# Altium integrated library Processor.IntLib: 68 symbols (part 3 of 4)
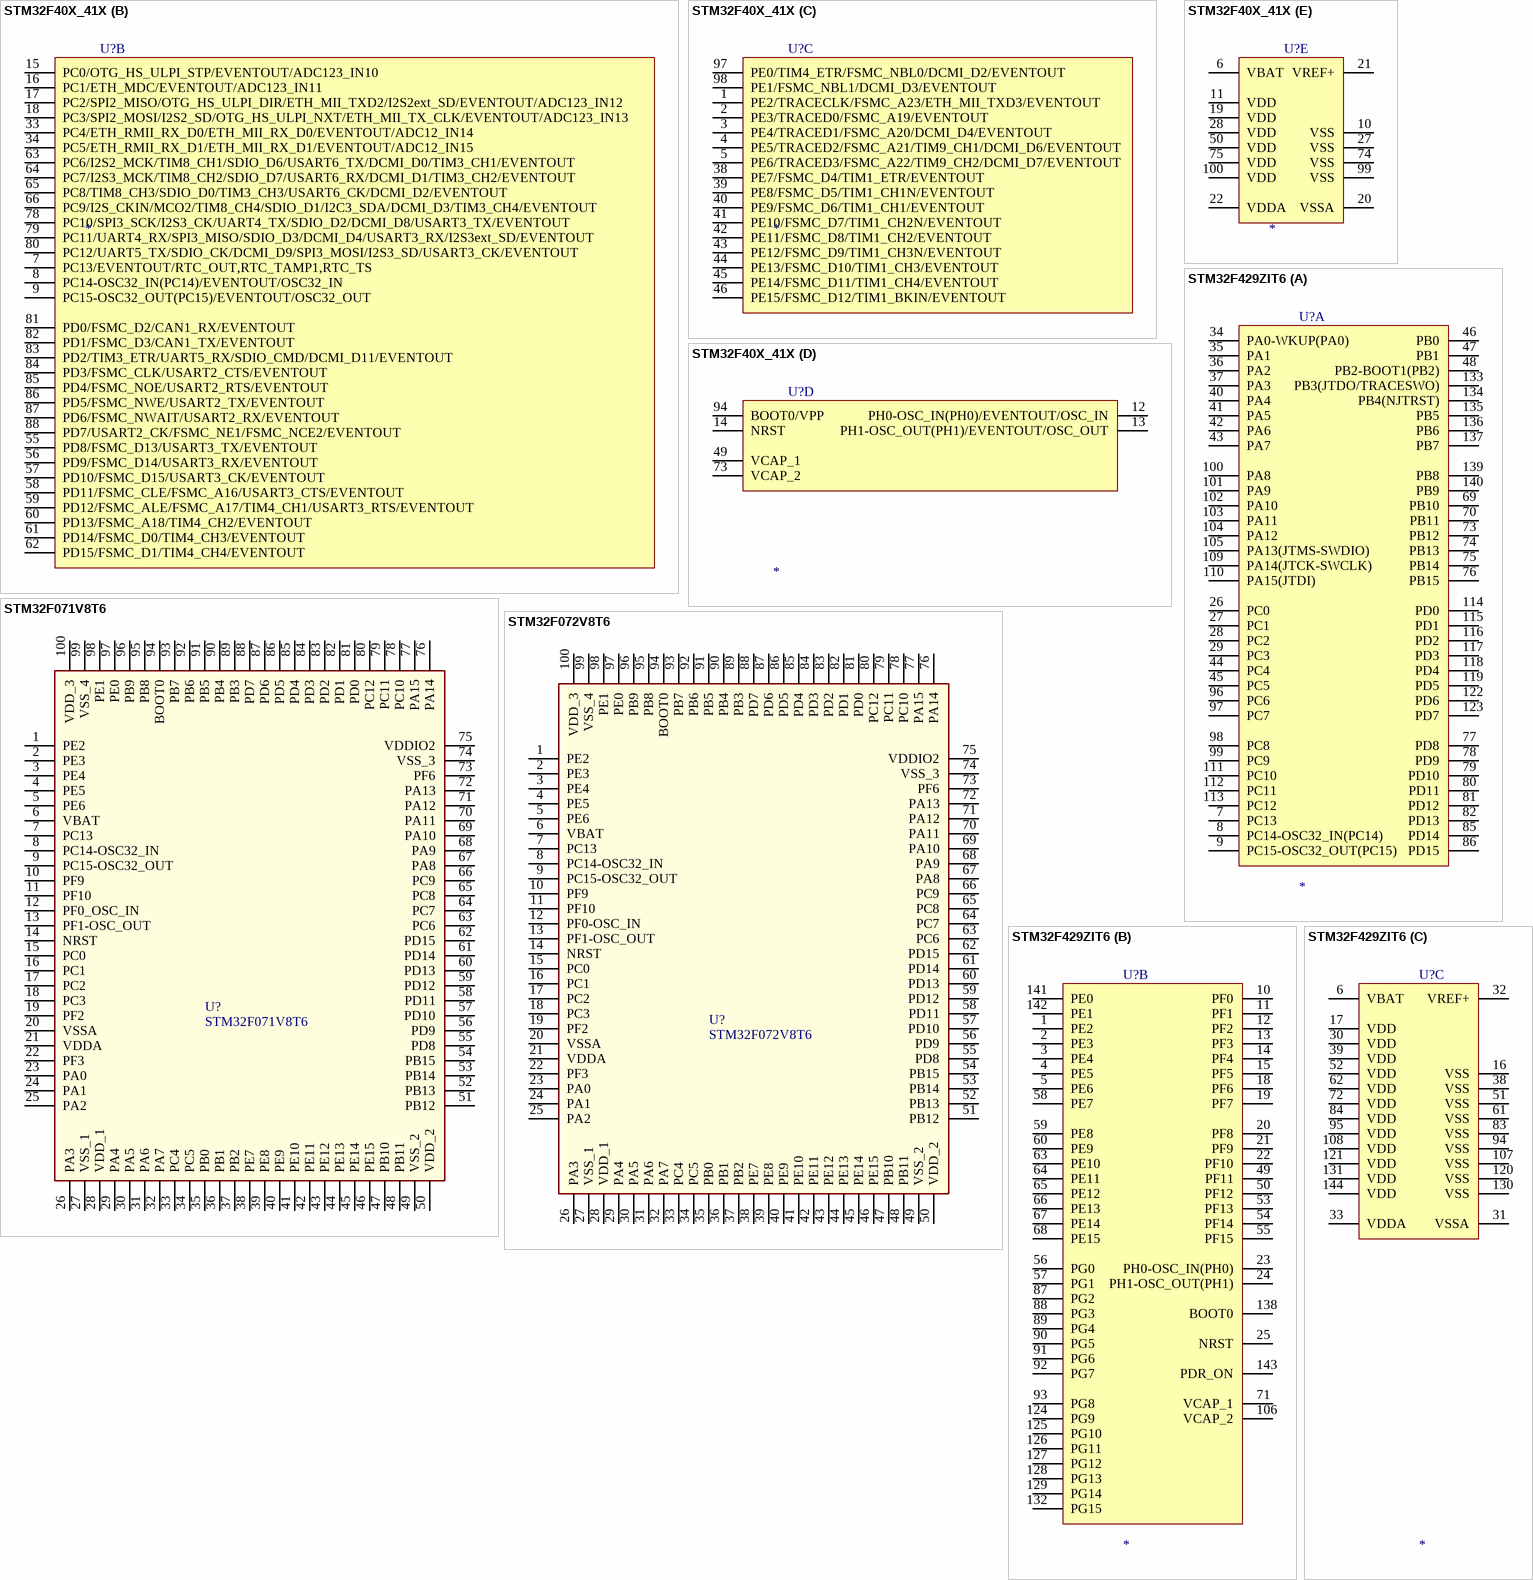
[diagram p29: symbols STM32F40X_41X to STM32F429ZIT6]

## STM32F429ZIT6
designator U?
ARM Cortex-M4 32b MCU+FPU,; Value: *
footprint LQFP144 P0.5 C20.0x20.0 H1.6 (Thin QFP, 144-Leads, Body 20x20mm, Pitch 0.5mm, IPC Medium Density)
part A pins: 7 PC13 "PC13/EVENTOUT/TAMP_1", 8 PC14-OSC32_IN(PC14) "PC14-OSC32_IN(PC14)/EVENTOUT/OSC32_IN", 9 PC15-OSC32_OUT(PC15) "PC15-OSC32_OUT(PC15)/EVENTOUT/OSC32_OUT", 26 PC0 "PC0/OTG_HS_ULPI_STP,FMC_SDNWE,EVENTOUT/ADC123_IN10", 27 PC1 "PC1/ETH_MDC,EVENTOUT/ADC123_IN11", 28 PC2 "PC2/SPI2_MISO,I2S2ext_SD,OTG_HS_ULPI_DIR,ETH_MII_TXD2,FMC_SDNE0,EVENTOUT/ADC123_IN12", 29 PC3 "PC3/SPI2_MOSI/I2S2_SD,OTG_HS_ULPI_NXT,ETH_MII_TX_CLK,FMC_SDCKE0,EVENTOUT/ADC123_IN13", 34 PA0-WKUP(PA0) "PA0-WKUP(PA0)/TIM2_CH1/TIM2_ETR,TIM5_CH1,TIM8_ETR,USART2_CTS,UART4_TX,ETH_MII_CRS,EVENTOUT/ADC123_IN0/WKUP", 35 PA1 "PA1/TIM2_CH2,TIM5_CH2,USART2_RTS,UART4_RX,ETH_MII_RX_CLK/ETH_RMII_REF_CLK,EVENTOUT/ADC123_IN1", 36 PA2 "PA2/TIM2_CH3,TIM5_CH3,TIM9_CH1,USART2_TX,ETH_MDIO,EVENTOUT/ADC123_IN2", 37 PA3 "PA3/TIM2_CH4,TIM5_CH4,TIM9_CH2,USART2_RX,OTG_HS_ULPI_D0,ETH_MII_COL,LCD_B5,EVENTOUT/ADC123_IN3", 40 PA4 "PA4/SPI1_NSS,SPI3_NSS/I2S3_WS,USART2_CK,OTG_HS_SOF,DCMI_HSYNC,LCD_VSYNC,EVENTOUT/ADC12_IN4/DAC_OUT1", 41 PA5 "PA5/TIM2_CH1/TIM2_ETR,TIM8_CH1N,SPI1_SCK,OTG_HS_ULPI_CK,EVENTOUT/ADC12_IN5/DAC_OUT2", 42 PA6 "PA6/TIM1_BKIN,TIM3_CH1,TIM8_BKIN,SPI1_MISO,TIM13_CH1,DCMI_PIXCLK,LCD_G2,EVENTOUT/ADC12_IN6", 43 PA7 "PA7/TIM1_CH1N,TIM3_CH2,TIM8_CH1N,SPI1_MOSI,TIM14_CH1,ETH_MII_RX_DV/ETH_RMII_CRS_DV,EVENTOUT/ADC12_IN7", 44 PC4 "PC4/ETH_MII_RXD0/ETH_RMII_RXD0,EVENTOUT/ADC12_IN14", 45 PC5 "PC5/ETH_MII_RXD1/ETH_RMII_RXD1,EVENTOUT/ADC12_IN15", 46 PB0 "PB0/TIM1_CH2N,TIM3_CH3,TIM8_CH2N,LCD_R3,OTG_HS_ULPI_D1,ETH_MII_RXD2,EVENTOUT/ADC12_IN8", 47 PB1 "PB1/TIM1_CH3N,TIM3_CH4,TIM8_CH3N,LCD_R6,OTG_HS_ULPI_D2,ETH_MII_RXD3,EVENTOUT/ADC12_IN9", 48 PB2-BOOT1(PB2) "PB2-BOOT1(PB2)/EVENTOUT", 69 PB10 "PB10/TIM2_CH3,I2C2_SCL,SPI2_SCK/I2S2_CK,USART3_TX,OTG_HS_ULPI_D3,ETH_MII_RX_ER,LCD_G4,EVENTOUT", 70 PB11 "PB11/TIM2_CH4,I2C2_SDA,USART3_RX,OTG_HS_ULPI_D4,ETH_MII_TX_EN/ETH_RMII_TX_EN,LCD_G5,EVENTOUT", 73 PB12 "PB12/TIM1_BKIN,I2C2_SMBA,SPI2_NSS/I2S2_WS,USART3_CK,CAN2_RX,OTG_HS_ULPI_D5,ETH_MII_TXD0/ETH_RMII_TXD0,OTG_HS_ID,EVENTOUT", 74 PB13 "PB13/TIM1_CH1N,SPI2_SCK/I2S2_CK,USART3_CTS,CAN2_TX,OTG_HS_ULPI_D6,ETH_MII_TXD1/ETH_RMII_TXD1,EVENTOUT/OTG_HS_VBUS", 75 PB14 "PB14/TIM1_CH2N,TIM8_CH2N,SPI2_MISO,I2S2ext_SD,USART3_RTS,TIM12_CH1,EVENTOUT/OTG_HS_DM", 76 PB15 "PB15/RTC_REFIN,TIM1_CH3N,TIM8_CH3N,SPI2_MOSI/I2S2_SD,TIM12_CH2,EVENTOUT/OTG_HS_DP", 77 PD8 "PD8/USART3_TX,FMC_D13,EVENTOUT", 78 PD9 "PD9/USART3_RX,FMC_D14,EVENTOUT", 79 PD10 "PD10/USART3_CK,FMC_D15,LCD_B3,EVENTOUT", 80 PD11 "PD11/USART3_CTS,FMC_A16,EVENTOUT", 81 PD12 "PD12/TIM4_CH1,USART3_RTS,FMC_A17,EVENTOUT", 82 PD13 "PD13/TIM4_CH2,FMC_A18,EVENTOUT", 85 PD14 "PD14/TIM4_CH3,FMC_D0,EVENTOUT", 86 PD15 "PD15/TIM4_CH4,FMC_D1,EVENTOUT", 96 PC6 "PC6/TIM3_CH1,TIM8_CH1,I2S2_MCK,USART6_TX,SDIO_D6,DCMI_D0,LCD_HSYNC,EVENTOUT", 97 PC7 "PC7/TIM3_CH2,TIM8_CH2,I2S3_MCK,USART6_RX,SDIO_D7,DCMI_D1,LCD_G6,EVENTOUT", 98 PC8 "PC8/TIM3_CH3,TIM8_CH3,USART6_CK,SDIO_D0,DCMI_D2,EVENTOUT", 99 PC9 "PC9/MCO2,TIM3_CH4,TIM8_CH4,I2C3_SDA,I2S_CKIN,SDIO_D1,DCMI_D3,EVENTOUT", 100 PA8 "PA8/MCO1,TIM1_CH1,I2C3_SCL,USART1_CK,OTG_FS_SOF,LCD_R6,EVENTOUT", 101 PA9 "PA9/TIM1_CH2,I2C3_SMBA,USART1_TX,DCMI_D0,EVENTOUT/OTG_FS_VBUS", 102 PA10 "PA10/TIM1_CH3,USART1_RX,OTG_FS_ID,DCMI_D1,EVENTOUT", 103 PA11 "PA11/TIM1_CH4,USART1_CTS,CAN1_RX,LCD_R4,EVENTOUT/OTG_FS_DM", 104 PA12 "PA12/TIM1_ETR,USART1_RTS,CAN1_TX,LCD_R5,EVENTOUT/OTG_FS_DP", 105 PA13(JTMS-SWDIO) "PA13(JTMS-SWDIO)/JTMS-SWDIO,EVENTOUT", 109 PA14(JTCK-SWCLK) "PA14(JTCK-SWCLK)/JTCK-SWCLK/EVENTOUT", 110 PA15(JTDI) "PA15(JTDI)/JTDI,TIM2_CH1/TIM2_ETR,SPI1_NSS,SPI3_NSS/I2S3_WS,EVENTOUT", 111 PC10 "PC10/SPI3_SCK/I2S3_CK,USART3_TX,UART4_TX,SDIO_D2,DCMI_D8,LCD_R2,EVENTOUT", 112 PC11 "PC11/I2S3ext_SD,SPI3_MISO,USART3_RX,UART4_RX,SDIO_D3,DCMI_D4,EVENTOUT", 113 PC12 "PC12/SPI3_MOSI/I2S3_SD,USART3_CK,UART5_TX,SDIO_CK,DCMI_D9,EVENTOUT", 114 PD0 "PD0/CAN1_RX,FMC_D2,EVENTOUT", 115 PD1 "PD1/CAN1_TX,FMC_D3,EVENTOUT", 116 PD2 "PD2/TIM3_ETR,UART5_RX,SDIO_CMD,DCMI_D11,EVENTOUT", 117 PD3 "PD3/SPI2_SCK/I2S2_CK,USART2_CTS,FMC_CLK,DCMI_D5,LCD_G7,EVENTOUT", 118 PD4 "PD4/USART2_RTS,FMC_NOE,EVENTOUT", 119 PD5 "PD5/USART2_TX,FMC_NWE,EVENTOUT", 122 PD6 "PD6/SPI3_MOSI/I2S3_SD,SAI1_SD_A,USART2_RX,FMC_NWAIT,DCMI_D10,LCD_B2,EVENTOUT", 123 PD7 "PD7/USART2_CK,FMC_NE1/FMC_NCE2,EVENTOUT", 133 PB3(JTDO/TRACESWO) "PB3(JTDO/TRACESWO)/JTDO/TRACESWO,TIM2_CH2,SPI1_SCK,SPI3_SCK/I2S3_CK,EVENTOUT", 134 PB4(NJTRST) "PB4(NJTRST)/NJTRST,TIM3_CH1,SPI1_MISO,SPI3_MISO,I2S3ext_SD,EVENTOUT", 135 PB5 "PB5/TIM3_CH2,I2C1_SMBA,SPI1_MOSI,SPI3_MOSI/I2S3_SD,CAN2_RX,OTG_HS_ULPI_D7,ETH_PPS_OUT,FMC_SDCKE1,DCMI_D10,EVENTOUT", 136 PB6 "PB6/TIM4_CH1,I2C1_SCL,USART1_TX,CAN2_TX,FMC_SDNE1,DCMI_D5,EVENTOUT", 137 PB7 "PB7/TIM4_CH2,I2C1_SDA,USART1_RX,FMC_NL,DCMI_VSYNC,EVENTOUT", 139 PB8 "PB8/TIM4_CH3,TIM10_CH1,I2C1_SCL,CAN1_RX,ETH_MII_TXD3,SDIO_D4,DCMI_D6,LCD_B6,EVENTOUT", 140 PB9 "PB9/TIM4_CH4,TIM11_CH1,I2C1_SDA,SPI2_NSS/I2S2_WS,CAN1_TX,SDIO_D5,DCMI_D7,LCD_B7,EVENTOUT"
part B pins: 1 PE2 "PE2/TRACECLK,SPI4_SCK,SAI1_MCLK_A,ETH_MII_TXD3,FMC_A23,EVENTOUT", 2 PE3 "PE3/TRACED0,SAI1_SD_B,FMC_A19,EVENTOUT", 3 PE4 "PE4/TRACED1,SPI4_NSS,SAI1_FS_A,FMC_A20,DCMI_D4,LCD_B0,EVENTOUT", 4 PE5 "PE5/TRACED2,TIM9_CH1,SPI4_MISO,SAI1_SCK_A,FMC_A21,DCMI_D6,LCD_G0,EVENTOUT", 5 PE6 "PE6/TRACED3,TIM9_CH2,SPI4_MOSI,SAI1_SD_A,FMC_A22,DCMI_D7,LCD_G1,EVENTOUT", 10 PF0 "PF0/I2C2_SDA,FMC_A0,EVENTOUT", 11 PF1 "PF1/I2C2_SCL,FMC_A1,EVENTOUT", 12 PF2 "PF2/I2C2_SMBA,FMC_A2,EVENTOUT", 13 PF3 "PF3/FMC_A3,EVENTOUT/ADC3_IN9", 14 PF4 "PF4/FMC_A4,EVENTOUT/ADC3_IN14", 15 PF5 "PF5/FMC_A5,EVENTOUT/ADC3_IN15", 18 PF6 "PF6/TIM10_CH1,SPI5_NSS,SAI1_SD_B,UART7_RX,FMC_NIORD,EVENTOUT/ADC3_IN4", 19 PF7 "PF7/TIM11_CH1,SPI5_SCK,SAI1_MCLK_B,UART7_TX,FMC_NREG,EVENTOUT/ADC3_IN5", 20 PF8 "PF8/SPI5_MISO,SAI1_SCK_B,TIM13_CH1,FMC_NIOWR,EVENTOUT/ADC3_IN6", 21 PF9 "PF9/SPI5_MOSI,SAI1_FS_B,TIM14_CH1,FMC_CD,EVENTOUT/ADC3_IN7", 22 PF10 "PF10/FMC_INTR,DCMI_D11,LCD_DE,EVENTOUT/ADC3_IN8", 23 PH0-OSC_IN(PH0) "PH0-OSC_IN(PH0)/EVENTOUT/OSC_IN", 24 PH1-OSC_OUT(PH1) "PH1-OSC_OUT(PH1)/EVENTOUT/OSC_OUT", 25 NRST, 49 PF11 "PF11/SPI5_MOSI,FMC_SDNRAS,DCMI_D12,EVENTOUT", 50 PF12 "PF12/FMC_A6,EVENTOUT", 53 PF13 "PF13/FMC_A7,EVENTOUT", 54 PF14 "PF14/FMC_A8,EVENTOUT", 55 PF15 "PF15/FMC_A9,EVENTOUT", 56 PG0 "PG0/FMC_A10,EVENTOUT", 57 PG1 "PG1/FMC_A11,EVENTOUT", 58 PE7 "PE7/TIM1_ETR,UART7_RX,FMC_D4,EVENTOUT", 59 PE8 "PE8/TIM1_CH1N,UART7_TX,FMC_D5,EVENTOUT", 60 PE9 "PE9/TIM1_CH1,FMC_D6,EVENTOUT", 63 PE10 "PE10/TIM1_CH2N,FMC_D7,EVENTOUT", 64 PE11 "PE11/TIM1_CH2,SPI4_NSS,FMC_D8,LCD_G3,EVENTOUT", 65 PE12 "PE12/TIM1_CH3N,SPI4_SCK,FMC_D9,LCD_B4,EVENTOUT", 66 PE13 "PE13/TIM1_CH3,SPI4_MISO,FMC_D10,LCD_DE,EVENTOUT", 67 PE14 "PE14/TIM1_CH4,SPI4_MOSI,FMC_D11,LCD_CLK,EVENTOUT", 68 PE15 "PE15/TIM1_BKIN,FMC_D12,LCD_R7,EVENTOUT", 71 VCAP_1, 87 PG2 "PG2/FMC_A12,EVENTOUT", 88 PG3 "PG3/FMC_A13,EVENTOUT", 89 PG4 "PG4/FMC_A14/FMC_BA0,EVENTOUT", 90 PG5 "PG5/FMC_A15/FMC_BA1,EVENTOUT", 91 PG6 "PG6/FMC_INT2,DCMI_D12,LCD_R7,EVENTOUT", 92 PG7 "PG7/USART6_CK,FMC_INT3,DCMI_D13,LCD_CLK,EVENTOUT", 93 PG8 "PG8/SPI6_NSS,USART6_RTS,ETH_PPS_OUT,FMC_SDCLK,EVENTOUT", 106 VCAP_2, 124 PG9 "PG9/USART6_RX,FMC_NE2/FMC_NCE3,EVENTOUT", 125 PG10 "PG10/LCD_G3,FMC_NCE4_1/FMC_NE3,DCMI_D2,LCD_B2,EVENTOUT", 126 PG11 "PG11/ETH_MII_TX_EN/ETH_RMII_TX_EN,FMC_NCE4_2,DCMI_D3,LCD_B3,EVENTOUT", 127 PG12 "PG12/SPI6_MISO,USART6_RTS,LCD_B4,FMC_NE4,LCD_B1,EVENTOUT", 128 PG13 "PG13/SPI6_SCK,USART6_CTS,ETH_MII_TXD0/ETH_RMII_TXD0,FMC_A24,EVENTOUT", 129 PG14 "PG14/SPI6_MOSI,USART6_TX,ETH_MII_TXD1/ETH_RMII_TXD1,FMC_A25,EVENTOUT", 132 PG15 "PG15/USART6_CTS,FMC_SDNCAS,DCMI_D13,EVENTOUT", 138 BOOT0 "BOOT0/VPP", 141 PE0 "PE0/TIM4_ETR,UART8_RX,FMC_NBL0,DCMI_D2,EVENTOUT", 142 PE1 "PE1/UART8_TX,FMC_NBL1,DCMI_D3,EVENTOUT", 143 PDR_ON
part C pins: 6 VBAT, 16 VSS, 17 VDD, 30 VDD, 31 VSSA, 32 VREF+, 33 VDDA, 38 VSS, 39 VDD, 51 VSS, 52 VDD, 61 VSS, 62 VDD, 72 VDD, 83 VSS, 84 VDD, 94 VSS, 95 VDD, 107 VSS, 108 VDD, 120 VSS, 121 VDD, 130 VSS, 131 VDD, 144 VDD

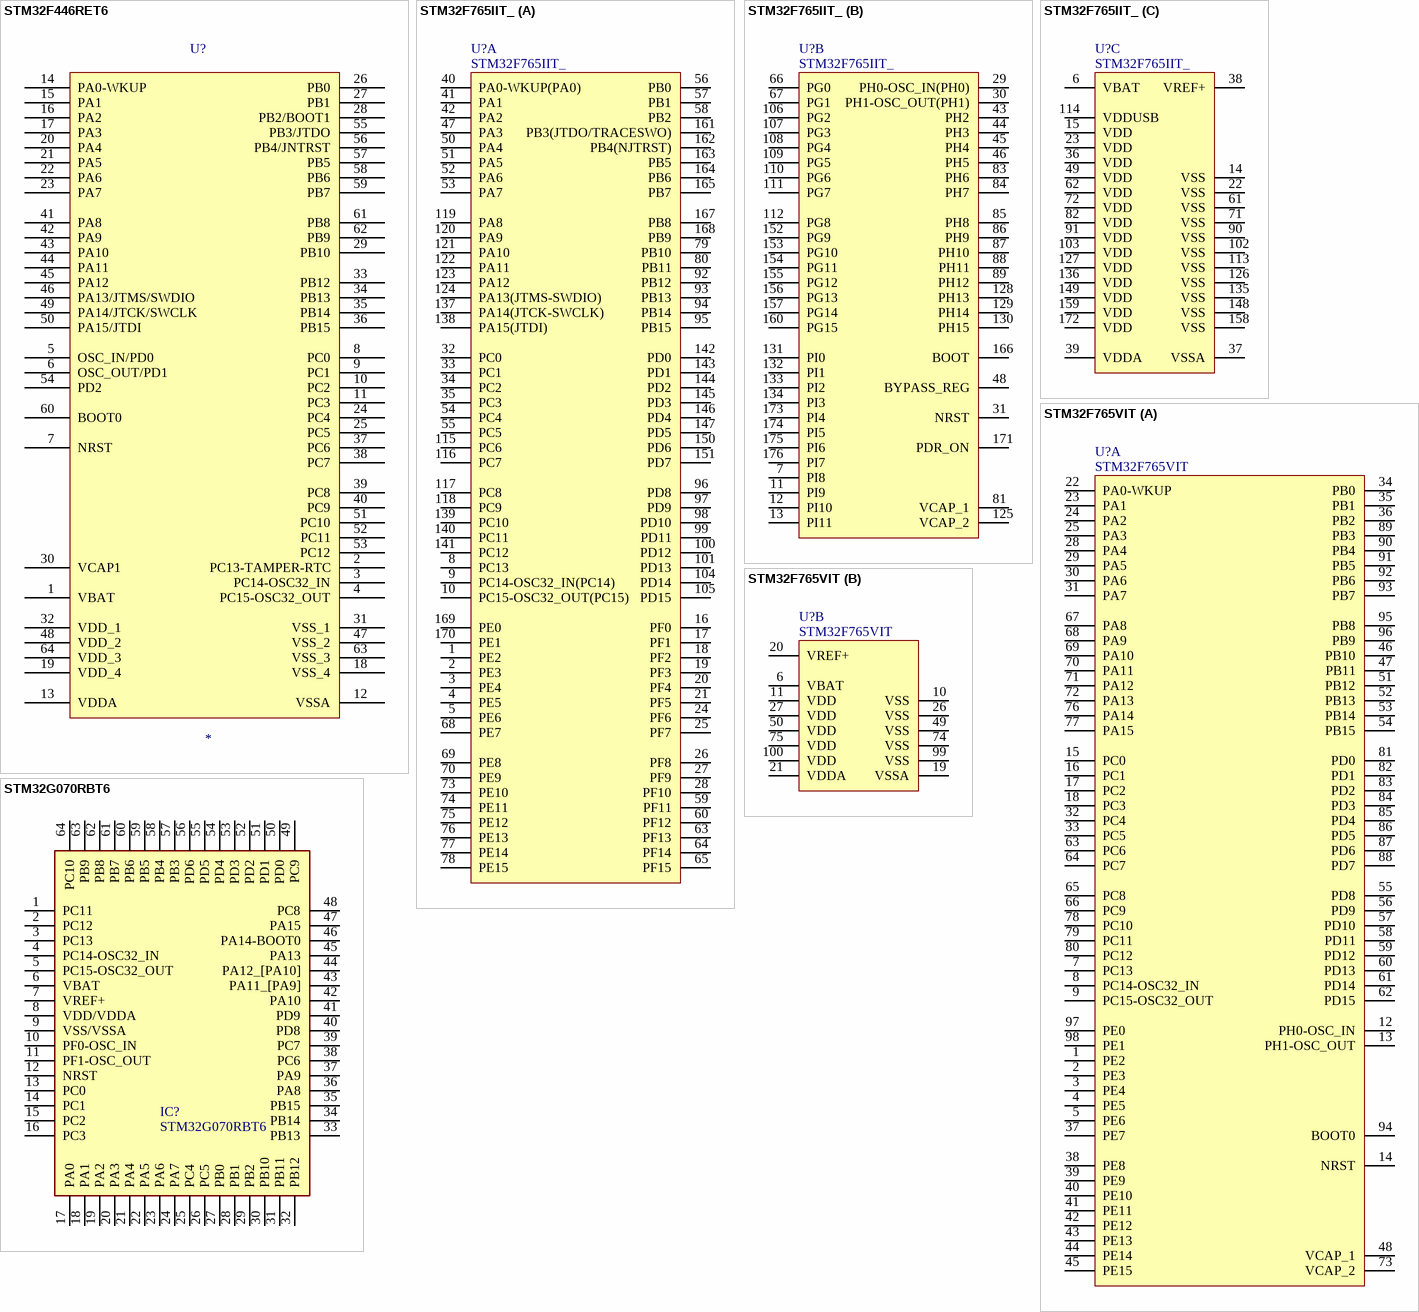
[diagram p16: symbols STM32F446RET6 to STM32G070RBT6]

## STM32F446RET6
designator U?
STM32 ARM-based 32-bit MCU with 128 Kbytes Flash, 64-pin LQFP, Industrial Temperature; Value: *
footprint LQFP64 P0.5 C10.0x10.0 H1.6 (Thin QFP, 64-Leads, Body 10x10mm, Pitch 0.5mm, IPC Medium Density)
pins: 1 VBAT, 2 PC13-TAMPER-RTC, 3 PC14-OSC32_IN, 4 PC15-OSC32_OUT, 5 OSC_IN/PD0, 6 OSC_OUT/PD1, 7 NRST, 8 PC0, 9 PC1, 10 PC2, 11 PC3, 12 VSSA, 13 VDDA, 14 PA0-WKUP, 15 PA1, 16 PA2, 17 PA3, 18 VSS_4, 19 VDD_4, 20 PA4, 21 PA5, 22 PA6, 23 PA7, 24 PC4, 25 PC5, 26 PB0, 27 PB1, 28 PB2/BOOT1, 29 PB10, 30 VCAP1, 31 VSS_1, 32 VDD_1, 33 PB12, 34 PB13, 35 PB14, 36 PB15, 37 PC6, 38 PC7, 39 PC8, 40 PC9, 41 PA8, 42 PA9, 43 PA10, 44 PA11, 45 PA12, 46 PA13/JTMS/SWDIO, 47 VSS_2, 48 VDD_2, 49 PA14/JTCK/SWCLK, 50 PA15/JTDI, 51 PC10, 52 PC11, 53 PC12, 54 PD2, 55 PB3/JTDO, 56 PB4/JNTRST, 57 PB5, 58 PB6, 59 PB7, 60 BOOT0, 61 PB8, 62 PB9, 63 VSS_3, 64 VDD_3

## STM32F765IIT_
designator U?
Arm Cortex M7 32b MCU+FPU; Value: STM32F765IIT_
footprint LQFP176 P0.5 C24.0x24.0 H1.6 (Thin QFP, 176-Leads, Body 24x24mm, Pitch 0.5mm, IPC Low Density)
part A pins: 1 PE2 "PE2/TRACECLK/FSMC_A23/ETH_MII_TXD3/EVENTOUT", 2 PE3 "PE3/TRACED0/FSMC_A19/EVENTOUT", 3 PE4 "PE4/TRACED1/FSMC_A20/DCMI_D4/EVENTOUT", 4 PE5 "PE5/TRACED2/FSMC_A21/TIM9_CH1/DCMI_D6/EVENTOUT", 5 PE6 "PE6/TRACED3/FSMC_A22/TIM9_CH2/DCMI_D7/EVENTOUT", 8 PC13, 9 PC14-OSC32_IN(PC14), 10 PC15-OSC32_OUT(PC15), 16 PF0 "PF0/FSMC_A0/I2C2_SDA/EVENTOUT", 17 PF1 "PF1/FSMC_A1/I2C2_SCL/EVENTOUT", 18 PF2 "PF2/FSMC_A2/I2C2_SMBA/EVENTOUT", 19 PF3 "PF3/FSMC_A3/EVENTOUT/ADC3_IN9", 20 PF4 "PF4/FSMC_A4/EVENTOUT/ADC3_IN14", 21 PF5 "PF5/FSMC_A5/EVENTOUT/ADC3_IN15", 24 PF6 "PF6/TIM10_CH1/FSMC_NIORD/EVENTOUT/ADC3_IN4", 25 PF7 "PF7/TIM11_CH1/FSMC_NREG/EVENTOUT/ADC3_IN5", 26 PF8 "PF8/TIM13_CH1/FSMC_NIOWR/EVENTOUT/ADC3_IN6", 27 PF9 "PF9/TIM14_CH1/FSMC_CD/EVENTOUT/ADC3_IN7", 28 PF10 "PF10/FSMC_INTR/EVENTOUT/ADC3_IN8", 32 PC0, 33 PC1, 34 PC2, 35 PC3, 40 PA0-WKUP(PA0), 41 PA1, 42 PA2, 47 PA3, 50 PA4, 51 PA5, 52 PA6, 53 PA7, 54 PC4, 55 PC5, 56 PB0, 57 PB1, 58 PB2, 59 PF11 "PF11/DCMI_D12/EVENTOUT", 60 PF12 "PF12/FSMC_A6/EVENTOUT", 63 PF13 "PF13/FSMC_A7/EVENTOUT", 64 PF14 "PF14/FSMC_A8/EVENTOUT", 65 PF15 "PF15/FSMC_A9/EVENTOUT", 68 PE7 "PE7/FSMC_D4/TIM1_ETR/EVENTOUT", 69 PE8 "PE8/FSMC_D5/TIM1_CH1N/EVENTOUT", 70 PE9 "PE9/FSMC_D6/TIM1_CH1/EVENTOUT", 73 PE10 "PE10/FSMC_D7/TIM1_CH2N/EVENTOUT", 74 PE11 "PE11/FSMC_D8/TIM1_CH2/EVENTOUT", 75 PE12 "PE12/FSMC_D9/TIM1_CH3N/EVENTOUT", 76 PE13 "PE13/FSMC_D10/TIM1_CH3/EVENTOUT", 77 PE14 "PE14/FSMC_D11/TIM1_CH4/EVENTOUT", 78 PE15 "PE15/FSMC_D12/TIM1_BKIN/EVENTOUT", 79 PB10, 80 PB11, 92 PB12, 93 PB13, 94 PB14, 95 PB15, 96 PD8, 97 PD9, 98 PD10, 99 PD11, 100 PD12, 101 PD13, 104 PD14, 105 PD15, 115 PC6, 116 PC7, 117 PC8, 118 PC9, 119 PA8, 120 PA9, 121 PA10, 122 PA11, 123 PA12, 124 PA13(JTMS-SWDIO), 137 PA14(JTCK-SWCLK), 138 PA15(JTDI), 139 PC10, 140 PC11, 141 PC12, 142 PD0, 143 PD1, 144 PD2, 145 PD3, 146 PD4, 147 PD5, 150 PD6, 151 PD7, 161 PB3(JTDO/TRACESWO), 162 PB4(NJTRST), 163 PB5, 164 PB6, 165 PB7, 167 PB8, 168 PB9, 169 PE0 "PE0/TIM4_ETR/FSMC_NBL0/DCMI_D2/EVENTOUT", 170 PE1 "PE1/FSMC_NBL1/DCMI_D3/EVENTOUT"
part B pins: 7 PI8 "PI8/EVENTOUT/RTC_TAMP1,RTC_TAMP2,RTC_TS", 11 PI9 "PI9/CAN1_RX/EVENTOUT", 12 PI10 "PI10/ETH_MII_RX_ER/EVENTOUT", 13 PI11 "PI11/OTG_HS_ULPI_DIR/EVENTOUT", 29 PH0-OSC_IN(PH0) "PH0-OSC_IN(PH0)/EVENTOUT/OSC_IN", 30 PH1-OSC_OUT(PH1) "PH1-OSC_OUT(PH1)/EVENTOUT/OSC_OUT", 31 NRST, 43 PH2 "PH2/ETH_MII_CRS/EVENTOUT", 44 PH3 "PH3/ETH_MII_COL/EVENTOUT", 45 PH4 "PH4/I2C2_SCL/OTG_HS_ULPI_NXT/EVENTOUT", 46 PH5 "PH5/I2C2_SDA/EVENTOUT", 48 BYPASS_REG, 66 PG0 "PG0/FSMC_A10/EVENTOUT", 67 PG1 "PG1/FSMC_A11/EVENTOUT", 81 VCAP_1, 83 PH6 "PH6/I2C2_SMBA/TIM12_CH1/ETH_MII_RXD2/EVENTOUT", 84 PH7 "PH7/I2C3_SCL/ETH_MII_RXD3/EVENTOUT", 85 PH8 "PH8/I2C3_SDA/DCMI_HSYNC/EVENTOUT", 86 PH9 "PH9/I2C3_SMBA/TIM12_CH2/DCMI_D0/EVENTOUT", 87 PH10 "PH10/TIM5_CH1/DCMI_D1/EVENTOUT", 88 PH11 "PH11/TIM5_CH2/DCMI_D2/EVENTOUT", 89 PH12 "PH12/TIM5_CH3/DCMI_D3/EVENTOUT", 106 PG2 "PG2/FSMC_A12/EVENTOUT", 107 PG3 "PG3/FSMC_A13/EVENTOUT", 108 PG4 "PG4/FSMC_A14/EVENTOUT", 109 PG5 "PG5/FSMC_A15/EVENTOUT", 110 PG6 "PG6/FSMC_INT2/EVENTOUT", 111 PG7 "PG7/FSMC_INT3/USART6_CK/EVENTOUT", 112 PG8 "PG8/USART6_RTS/ETH_PPS_OUT/EVENTOUT", 125 VCAP_2, 128 PH13 "PH13/TIM8_CH1N/CAN1_TX/EVENTOUT", 129 PH14 "PH14/TIM8_CH2N/DCMI_D4/EVENTOUT", 130 PH15 "PH15/TIM8_CH3N/DCMI_D11/EVENTOUT", 131 PI0 "PI0/TIM5_CH4/SPI2_NSS/I2S2_WS/DCMI_D13/EVENTOUT", 132 PI1 "PI1/SPI2_SCK/I2S2_CK/DCMI_D8/EVENTOUT", 133 PI2 "PI2/TIM8_CH4/SPI2_MISO/DCMI_D9/I2S2ext_SD/EVENTOUT", 134 PI3 "PI3/TIM8_ETR/SPI2_MOSI/I2S2_SD/DCMI_D10/EVENTOUT", 152 PG9 "PG9/USART6_RX/FSMC_NE2/FSMC_NCE3/EVENTOUT", 153 PG10 "PG10/FSMC_NCE4_1/FSMC_NE3/EVENTOUT", 154 PG11 "PG11/FSMC_NCE4_2/ETH_MII_TX_EN/ETH_RMII_TX_EN/EVENTOUT", 155 PG12 "PG12/FSMC_NE4/USART6_RTS/EVENTOUT", 156 PG13 "PG13/FSMC_A24/USART6_CTS/ETH_MII_TXD0/ETH_RMII_TXD0/EVENTOUT", 157 PG14 "PG14/FSMC_A25/USART6_TX/ETH_MII_TXD1/ETH_RMII_TXD1/EVENTOUT", 160 PG15 "PG15/USART6_CTS/DCMI_D13/EVENTOUT", 166 BOOT "BOOT0/VPP", 171 PDR_ON, 173 PI4 "PI4/TIM8_BKIN/DCMI_D5/EVENTOUT", 174 PI5 "PI5/TIM8_CH1/DCMI_VSYNC/EVENTOUT", 175 PI6 "PI6/TIM8_CH2/DCMI_D6/EVENTOUT", 176 PI7 "PI7/TIM8_CH3/DCMI_D7/EVENTOUT"
part C pins: 6 VBAT, 14 VSS, 15 VDD, 22 VSS, 23 VDD, 36 VDD, 37 VSSA, 38 VREF+, 39 VDDA, 49 VDD, 61 VSS, 62 VDD, 71 VSS, 72 VDD, 82 VDD, 90 VSS, 91 VDD, 102 VSS, 103 VDD, 113 VSS, 114 VDDUSB "VDD", 126 VSS, 127 VDD, 135 VSS, 136 VDD, 148 VSS, 149 VDD, 158 VSS, 159 VDD, 172 VDD

## STM32F765VIT
designator U?
Arm Cortex-M7 32b MCU+FPU; Value: STM32F765VIT
footprint LQFP100 P0.5 C14.0X14.0 H1.6 (Thin QFP, 100-Leads, Body 14x14mm, Pitch 0.5mm, IPC Medium Density)
part A pins: 1 PE2 "PE2/TRACECLK,SPI4_SCK,SAI1_MCLK_A,QUADSPI_BK1_IO2,ETH_MII_TXD3,FMC_A23,EVENTOUT", 2 PE3 "PE3/TRACED0,SAI1_SD_B,FMC_A19,EVENTOUT", 3 PE4 "PE4/TRACED1,SPI4_NSS,SAI1_FS_A,FMC_A20,DCMI_D4,LCD_B0,EVENTOUT", 4 PE5 "PE5/TRACED2,TIM9_CH1,SPI4_MISO,SAI1_SCK_A,FMC_A21,DCMI_D6,LCD_G0,EVENTOUT", 5 PE6 "PE6/TRACED3,TIM1_BKIN2,TIM9_CH2,SPI4_MOSI,SAI1_SD_A,SAI2_MCK_B,FMC_A22,DCMI_D7,LCD_G1,EVENTOUT", 7 PC13 "PC13/EVENTOUT/RTC_TAMP1/RTC_TS/RTC_OUT,WKUP4", 8 PC14-OSC32_IN "PC14-OSC32_IN(PC14)/EVENTOUT/OSC32_IN", 9 PC15-OSC32_OUT "PC15-OSC32_OUT(PC15)/EVENTOUT/OSC32_OUT", 12 PH0-OSC_IN "PH0-OSC_IN(PH0)/EVENTOUT/OSC_IN", 13 PH1-OSC_OUT "PH1-OSC_OUT(PH1)/EVENTOUT/OSC_OUT", 14 NRST, 15 PC0 "PC0/SAI2_FS_B,OTG_HS_ULPI_STP,FMC_SDNWE,LCD_R5,EVENTOUT/ADC123_IN10", 16 PC1 "PC1/TRACED0,SPI2_MOSI/I2S2_SD,SAI1_SD_A,ETH_MDC,EVENTOUT/ADC123_IN11,RTC_TAMP3,WKUP3", 17 PC2 "PC2/SPI2_MISO,OTG_HS_ULPI_DIR,ETH_MII_TXD2,FMC_SDNE0,EVENTOUT/ADC123_IN12", 18 PC3 "PC3/SPI2_MOSI/I2S2_SD,OTG_HS_ULPI_NXT,ETH_MII_TX_CLK,FMC_SDCKE0,EVENTOUT/ADC123_IN13", 22 PA0-WKUP "PA0-WKUP(PA0)/TIM2_CH1/TIM2_ETR,TIM5_CH1,TIM8_ETR,USART2_CTS,UART4_TX,SAI2_SD_B,ETH_MII_CRS,EVENTOUT/ADC123_IN0,WKUP1", 23 PA1 "PA1/TIM2_CH2,TIM5_CH2,USART2_RTS,UART4_RX,QUADSPI_BK1_IO3,SAI2_MCK_B,ETH_MII_RX_CLK/ETH_RMII_REF_CLK,LCD_R2,EVENTOUT/ADC123_IN1", 24 PA2 "PA2/TIM2_CH3,TIM5_CH3,TIM9_CH1,USART2_TX,SAI2_SCK_B,ETH_MDIO,LCD_R1,EVENTOUT/ADC123_IN2,WKUP2", 25 PA3 "PA3/TIM2_CH4,TIM5_CH4,TIM9_CH2,USART2_RX,OTG_HS_ULPI_D0,ETH_MII_COL,LCD_B5,EVENTOUT/ADC123_IN3", 28 PA4 "PA4/SPI1_NSS/I2S1_WS,SPI3_NSS/I2S3_WS,USART2_CK,OTG_HS_SOF,DCMI_HSYNC,LCD_VSYNC,EVENTOUT/ADC12_IN4,DAC_OUT1", 29 PA5 "PA5/TIM2_CH1/TIM2_ETR,TIM8_CH1N,SPI1_SCK/I2S1_CK,OTG_HS_ULPI_CK,LCD_R4,EVENTOUT/ADC12_IN5,DAC_OUT2", 30 PA6 "PA6/TIM1_BKIN,TIM3_CH1,TIM8_BKIN,SPI1_MISO,TIM13_CH1,DCMI_PIXCLK,LCD_G2,EVENTOUT/ADC12_IN6", 31 PA7 "PA7/TIM1_CH1N,TIM3_CH2,TIM8_CH1N,SPI1_MOSI/I2S1_SD,TIM14_CH1,ETH_MII_RX_DV/ETH_RMII_CRS_DV,FMC_SDNWE,EVENTOUT/ADC12_IN7", 32 PC4 "PC4/I2S1_MCK,SPDIFRX_IN2,ETH_MII_RXD0/ETH_RMII_RXD0,FMC_SDNE0,EVENTOUT/ADC12_IN14", 33 PC5 "PC5/SPDIFRX_IN3,ETH_MII_RXD1/ETH_RMII_RXD1,FMC_SDCKE0,EVENTOUT/ADC12_IN15", 34 PB0 "PB0/TIM1_CH2N,TIM3_CH3,TIM8_CH2N,UART4_CTS,LCD_R3,OTG_HS_ULPI_D1,ETH_MII_RXD2,EVENTOUT/ADC12_IN8", 35 PB1 "PB1/TIM1_CH3N,TIM3_CH4,TIM8_CH3N,LCD_R6,OTG_HS_ULPI_D2,ETH_MII_RXD3,EVENTOUT/ADC12_IN9", 36 PB2 "PB2/SAI1_SD_A,SPI3_MOSI/I2S3_SD,QUADSPI_CLK,EVENTOUT", 37 PE7 "PE7/TIM1_ETR,UART7_RX,QUADSPI_BK2_IO0,FMC_D4,EVENTOUT", 38 PE8 "PE8/TIM1_CH1N,UART7_TX,QUADSPI_BK2_IO1,FMC_D5,EVENTOUT", 39 PE9 "PE9/TIM1_CH1,UART7_RTS,QUADSPI_BK2_IO2,FMC_D6,EVENTOUT", 40 PE10 "PE10/TIM1_CH2N,UART7_CTS,QUADSPI_BK2_IO3,FMC_D7,EVENTOUT", 41 PE11 "PE11/TIM1_CH2,SPI4_NSS,SAI2_SD_B,FMC_D8,LCD_G3,EVENTOUT", 42 PE12 "PE12/TIM1_CH3N,SPI4_SCK,SAI2_SCK_B,FMC_D9,LCD_B4,EVENTOUT", 43 PE13 "PE13/TIM1_CH3,SPI4_MISO,SAI2_FS_B,FMC_D10,LCD_DE,EVENTOUT", 44 PE14 "PE14/TIM1_CH4,SPI4_MOSI,SAI2_MCK_B,FMC_D11,LCD_CLK,EVENTOUT", 45 PE15 "PE15/TIM1_BKIN,FMC_D12,LCD_R7,EVENTOUT", 46 PB10 "PB10/TIM2_CH3,I2C2_SCL,SPI2_SCK/I2S2_CK,USART3_TX,OTG_HS_ULPI_D3,ETH_MII_RX_ER,LCD_G4,EVENTOUT", 47 PB11 "PB11/TIM2_CH4,I2C2_SDA,USART3_RX,OTG_HS_ULPI_D4,ETH_MII_TX_EN/ETH_RMII_TX_EN,LCD_G5,EVENTOUT", 48 VCAP_1, 51 PB12 "PB12/TIM1_BKIN,I2C2_SMBA,SPI2_NSS/I2S2_WS,USART3_CK,CAN2_RX,OTG_HS_ULPI_D5,ETH_MII_TXD0/ETH_RMII_TXD0,OTG_HS_ID,EVENTOUT", 52 PB13 "PB13/TIM1_CH1N,SPI2_SCK/I2S2_CK,USART3_CTS,CAN2_TX,OTG_HS_ULPI_D6,ETH_MII_TXD1/ETH_RMII_TXD1,EVENTOUT/OTG_HS_VBUS", 53 PB14 "PB14/TIM1_CH2N,TIM8_CH2N,SPI2_MISO,USART3_RTS,TIM12_CH1,OTG_HS_DM,EVENTOUT", 54 PB15 "PB15/RTC_REFIN,TIM1_CH3N,TIM8_CH3N,SPI2_MOSI/I2S2_SD,TIM12_CH2,OTG_HS_DP,EVENTOUT", 55 PD8 "PD8/USART3_TX,SPDIFRX_IN11,FMC_D13,EVENTOUT", 56 PD9 "PD9/USART3_RX,FMC_D14,EVENTOUT", 57 PD10 "PD10/USART3_CK,FMC_D15,LCD_B3,EVENTOUT", 58 PD11 "PD11/I2C4_SMBA,USART3_CTS,QUADSPI_BK1_IO0,SAI2_SD_A,FMC_A16/FMC_CLE,EVENTOUT", 59 PD12 "PD12/TIM4_CH1,LPTIM1_IN1,I2C4_SCL,USART3_RTS,QUADSPI_BK1_IO1,SAI2_FS_A,FMC_A17/FMC_ALE,EVENTOUT", 60 PD13 "PD13/TIM4_CH2,LPTIM1_OUT,I2C4_SDA,QUADSPI_BK1_IO3,SAI2_SCK_A,FMC_A18,EVENTOUT", 61 PD14 "PD14/TIM4_CH3,UART8_CTS,FMC_D0,EVENTOUT", 62 PD15 "PD15/TIM4_CH4,UART8_RTS,FMC_D1,EVENTOUT", 63 PC6 "PC6/TIM3_CH1,TIM8_CH1,I2S2_MCK,USART6_TX,SDMMC1_D6,DCMI_D0,LCD_HSYNC,EVENTOUT", 64 PC7 "PC7/TIM3_CH2,TIM8_CH2,I2S3_MCK,USART6_RX,SDMMC1_D7,DCMI_D1,LCD_G6,EVENTOUT", 65 PC8 "PC8/TRACED1,TIM3_CH3,TIM8_CH3,UART5_RTS,USART6_CK,SDMMC1_D0,DCMI_D2,EVENTOUT", 66 PC9 "PC9/MCO2,TIM3_CH4,TIM8_CH4,I2C3_SDA,I2S_CKIN,UART5_CTS,QUADSPI_BK1_IO0,SDMMC1_D1,DCMI_D3,EVENTOUT", 67 PA8 "PA8/MCO1,TIM1_CH1,TIM8_BKIN2,I2C3_SCL,USART1_CK,OTG_FS_SOF,LCD_R6,EVENTOUT", 68 PA9 "PA9/TIM1_CH2,I2C3_SMBA,SPI2_SCK/I2S2_CK,USART1_TX,DCMI_D0,EVENTOUT/OTG_FS_VBUS", 69 PA10 "PA10/TIM1_CH3,USART1_RX,OTG_FS_ID,DCMI_D1,EVENTOUT", 70 PA11 "PA11/TIM1_CH4,USART1_CTS,CAN1_RX,OTG_FS_DM,LCD_R4,EVENTOUT", 71 PA12 "PA12/TIM1_ETR,USART1_RTS,SAI2_FS_B,CAN1_TX,OTG_FS_DP,LCD_R5,EVENTOUT", 72 PA13 "PA13(JTMS-SWDIO)/JTMS-SWDIO,EVENTOUT", 73 VCAP_2, 76 PA14 "PA14(JTCK-SWCLK)/JTCK-SWCLK,EVENTOUT", 77 PA15 "PA15(JTDI)/JTDI/TIM2_CH1/TIM2_ETR,HDMI-CEC,SPI1_NSS/I2S1_WS,SPI3_NSS/I2S3_WS,UART4_RTS,EVENTOUT", 78 PC10 "PC10/SPI3_SCK/I2S3_CK,USART3_TX,UART4_TX,QUADSPI_BK1_IO1,SDMMC1_D2,DCMI_D8,LCD_R2,EVENTOUT", 79 PC11 "PC11/SPI3_MISO,USART3_RX,UART4_RX,QUADSPI_BK2_NCS,SDMMC1_D3,DCMI_D4,EVENTOUT", 80 PC12 "PC12/TRACED3,SPI3_MOSI/I2S3_SD,USART3_CK,UART5_TX,SDMMC1_CK,DCMI_D9,EVENTOUT", 81 PD0 "PD0/CAN1_RX,FMC_D2,EVENTOUT", 82 PD1 "PD1/CAN1_TX,FMC_D3,EVENTOUT", 83 PD2 "PD2/TRACED2,TIM3_ETR,UART5_RX,SDMMC1_CMD,DCMI_D11,EVENTOUT", 84 PD3 "PD3/SPI2_SCK/I2S2_CK,USART2_CTS,FMC_CLK,DCMI_D5,LCD_G7,EVENTOUT", 85 PD4 "PD4/USART2_RTS,FMC_NOE,EVENTOUT", 86 PD5 "PD5/USART2_TX,FMC_NWE,EVENTOUT", 87 PD6 "PD6/SPI3_MOSI/I2S3_SD,SAI1_SD_A,USART2_RX,FMC_NWAIT,DCMI_D10,LCD_B2,EVENTOUT", 88 PD7 "PD7/USART2_CK,SPDIFRX_IN0,FMC_NE1,EVENTOUT", 89 PB3 "PB3(JTDO/TRACESWO)/JTDO/TRACESWO,TIM2_CH2,SPI1_SCK/I2S1_CK,SPI3_SCK/I2S3_CK,EVENTOUT", 90 PB4 "PB4(NJTRST)/NJTRST,TIM3_CH1,SPI1_MISO,SPI3_MISO,SPI2_NSS/I2S2_WS,EVENTOUT", 91 PB5 "PB5/TIM3_CH2,I2C1_SMBA,SPI1_MOSI/I2S1_SD,SPI3_MOSI/I2S3_SD,CAN2_RX,OTG_HS_ULPI_D7,ETH_PPS_OUT,FMC_SDCKE1,DCMI_D10,EVENTOUT", 92 PB6 "PB6/TIM4_CH1,HDMI-CEC,I2C1_SCL,USART1_TX,CAN2_TX,QUADSPI_BK1_NCS,FMC_SDNE1,DCMI_D5,EVENTOUT", 93 PB7 "PB7/TIM4_CH2,I2C1_SDA,USART1_RX,FMC_NL,DCMI_VSYNC,EVENTOUT", 94 BOOT0 "BOOT/VPP", 95 PB8 "PB8/TIM4_CH3,TIM10_CH1,I2C1_SCL,CAN1_RX,ETH_MII_TXD3,SDMMC1_D4,DCMI_D6,LCD_B6,EVENTOUT", 96 PB9 "PB9/TIM4_CH4,TIM11_CH1,I2C1_SDA,SPI2_NSS/I2S2_WS,CAN1_TX,SDMMC1_D5,DCMI_D7,LCD_B7,EVENTOUT", 97 PE0 "PE0/TIM4_ETR,LPTIM1_ETR,UART8_RX,SAI2_MCK_A,FMC_NBL0,DCMI_D2,EVENTOUT", 98 PE1 "PE1/LPTIM1_IN2,UART8_TX,FMC_NBL1,DCMI_D3,EVENTOUT"
part B pins: 6 VBAT, 10 VSS, 11 VDD, 19 VSSA, 20 VREF+, 21 VDDA, 26 VSS, 27 VDD, 49 VSS, 50 VDD, 74 VSS, 75 VDD, 99 VSS, 100 VDD

## STM32G070RBT6
designator IC?
Arm Cortex -M0+ 32-bit MCU, 128 KB Flash, 36 KB RAM, 4x USART, timers, ADC, comm. I/Fs, 2.0-3.6V; Manufacturer: STMicroelectronics; Mouser No.: 511-STM32G070RBT6; Value: STM32G070RBT6
footprint LQFP64 P0.5 C10.0x10.0 H1.6 (Thin QFP, 64-Leads, Body 10x10mm, Pitch 0.5mm, IPC Medium Density)
pins: 1 PC11, 2 PC12, 3 PC13, 4 PC14-OSC32_IN, 5 PC15-OSC32_OUT, 6 VBAT, 7 VREF+, 8 VDD/VDDA, 9 VSS/VSSA, 10 PF0-OSC_IN, 11 PF1-OSC_OUT, 12 NRST, 13 PC0, 14 PC1, 15 PC2, 16 PC3, 17 PA0, 18 PA1, 19 PA2, 20 PA3, 21 PA4, 22 PA5, 23 PA6, 24 PA7, 25 PC4, 26 PC5, 27 PB0, 28 PB1, 29 PB2, 30 PB10, 31 PB11, 32 PB12, 33 PB13, 34 PB14, 35 PB15, 36 PA8, 37 PA9, 38 PC6, 39 PC7, 40 PD8, 41 PD9, 42 PA10, 43 PA11_[PA9], 44 PA12_[PA10], 45 PA13, 46 PA14-BOOT0, 47 PA15, 48 PC8, 49 PC9, 50 PD0, 51 PD1, 52 PD2, 53 PD3, 54 PD4, 55 PD5, 56 PD6, 57 PB3, 58 PB4, 59 PB5, 60 PB6, 61 PB7, 62 PB8, 63 PB9, 64 PC10

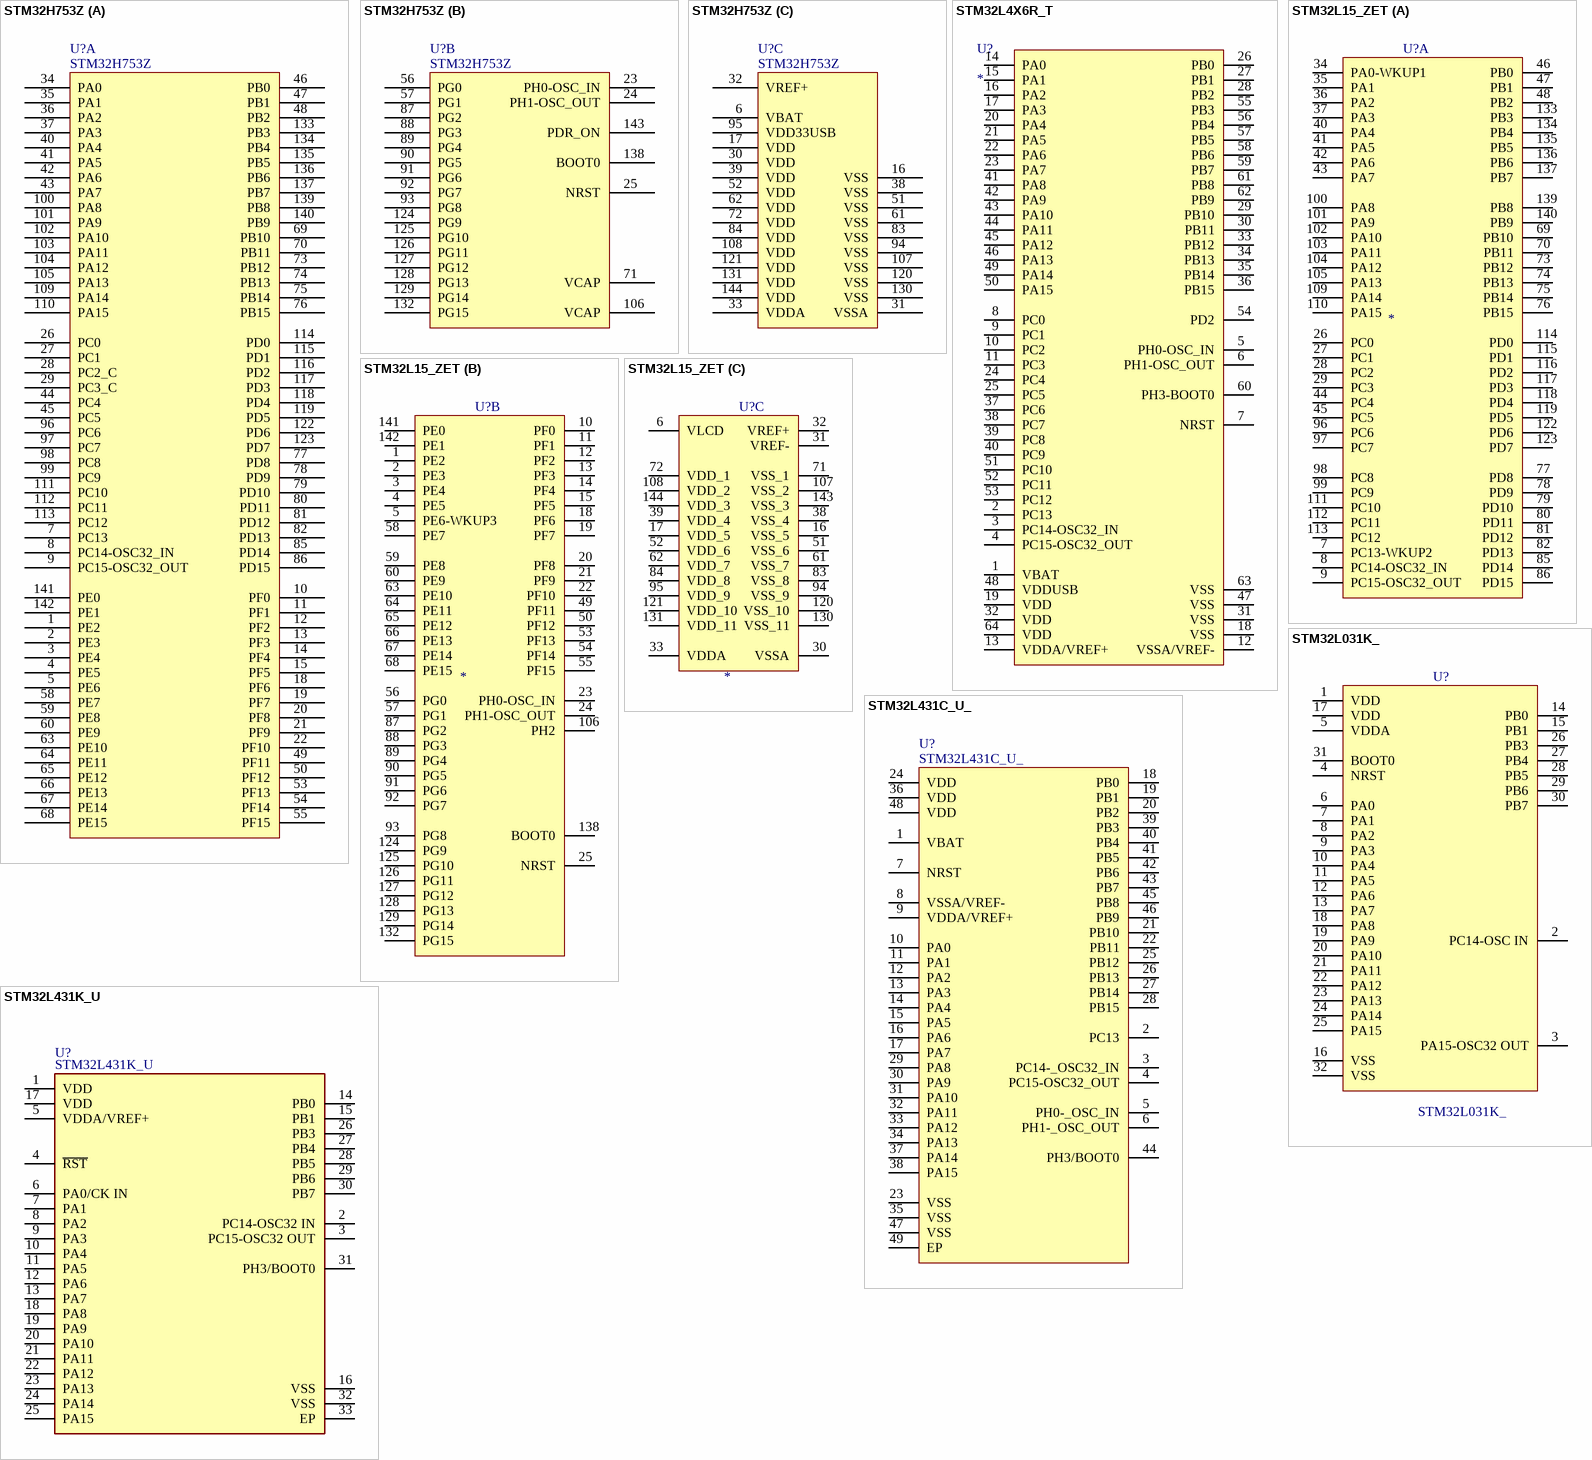
[diagram p17: symbols STM32H753Z to STM32L431K_U]

## STM32H753Z
designator U?
32-bit Arm® Cortex®-M7 480MHz MCUs; Value: STM32H753Z
footprint LQFP144 P0.5 C20.0x20.0 H1.6 (Thin QFP, 144-Leads, Body 20x20mm, Pitch 0.5mm, IPC Medium Density)
part A pins: 1 PE2 "PE2/TRACECLK,SPI4_SCK,SAI1_MCLK_A,QUADSPI_BK1_IO2,ETH_MII_TXD3,FMC_A23,EVENTOUT", 2 PE3 "PE3/TRACED0,SAI1_SD_B,FMC_A19,EVENTOUT", 3 PE4 "PE4/TRACED1,SPI4_NSS,SAI1_FS_A,FMC_A20,DCMI_D4,LCD_B0,EVENTOUT", 4 PE5 "PE5/TRACED2,TIM9_CH1,SPI4_MISO,SAI1_SCK_A,FMC_A21,DCMI_D6,LCD_G0,EVENTOUT", 5 PE6 "PE6/TRACED3,TIM1_BKIN2,TIM9_CH2,SPI4_MOSI,SAI1_SD_A,SAI2_MCK_B,FMC_A22,DCMI_D7,LCD_G1,EVENTOUT", 7 PC13 "PC13/EVENTOUT/RTC_TAMP1/RTC_TS/RTC_OUT,WKUP4", 8 PC14-OSC32_IN "PC14/EVENTOUT/OSC32_IN", 9 PC15-OSC32_OUT "PC15/EVENTOUT/OSC32_OUT", 10 PF0 "PF0/I2C2_SDA,FMC_A0,EVENTOUT", 11 PF1 "PF1/I2C2_SCL,FMC_A1,EVENTOUT", 12 PF2 "PF2/I2C2_SMBA,FMC_A2,EVENTOUT", 13 PF3 "PF3/FMC_A3,EVENTOUT/ADC3_IN9", 14 PF4 "PF4/FMC_A4,EVENTOUT/ADC3_IN14", 15 PF5 "PF5/FMC_A5,EVENTOUT/ADC3_IN15", 18 PF6 "PF6/TIM10_CH1,SPI5_NSS,SAI1_SD_B,UART7_RX,QUADSPI_BK1_IO3,EVENTOUT/ADC3_IN4", 19 PF7 "PF7/TIM11_CH1,SPI5_SCK,SAI1_MCLK_B,UART7_TX,QUADSPI_BK1_IO2,EVENTOUT/ADC3_IN5", 20 PF8 "PF8/SPI5_MISO,SAI1_SCK_B,UART7_RTS,TIM13_CH1,QUADSPI_BK1_IO0,EVENTOUT/ADC3_IN6", 21 PF9 "PF9/SPI5_MOSI,SAI1_FS_B,UART7_CTS,TIM14_CH1,QUADSPI_BK1_IO1,EVENTOUT/ADC3_IN7", 22 PF10 "PF10/DCMI_D11,LCD_DE,EVENTOUT/ADC3_IN8", 26 PC0 "PC0/SAI2_FS_B,OTG_HS_ULPI_STP,FMC_SDNWE,LCD_R5,EVENTOUT/ADC123_IN10", 27 PC1 "PC1/TRACED0,SPI2_MOSI/I2S2_SD,SAI1_SD_A,ETH_MDC,EVENTOUT/ADC123_IN11,RTC_TAMP3,WKUP3", 28 PC2_C "PC2/SPI2_MISO,OTG_HS_ULPI_DIR,ETH_MII_TXD2,FMC_SDNE0,EVENTOUT/ADC123_IN12", 29 PC3_C "PC3/SPI2_MOSI/I2S2_SD,OTG_HS_ULPI_NXT,ETH_MII_TX_CLK,FMC_SDCKE0,EVENTOUT/ADC123_IN13", 34 PA0 "PA0-WKUP(PA0)/TIM2_CH1/TIM2_ETR,TIM5_CH1,TIM8_ETR,USART2_CTS,UART4_TX,SAI2_SD_B,ETH_MII_CRS,EVENTOUT/ADC123_IN0,WKUP1", 35 PA1 "PA1/TIM2_CH2,TIM5_CH2,USART2_RTS,UART4_RX,QUADSPI_BK1_IO3,SAI2_MCK_B,ETH_MII_RX_CLK/ETH_RMII_REF_CLK,LCD_R2,EVENTOUT/ADC123_IN1", 36 PA2 "PA2/TIM2_CH3,TIM5_CH3,TIM9_CH1,USART2_TX,SAI2_SCK_B,ETH_MDIO,LCD_R1,EVENTOUT/ADC123_IN2,WKUP2", 37 PA3 "PA3/TIM2_CH4,TIM5_CH4,TIM9_CH2,USART2_RX,OTG_HS_ULPI_D0,ETH_MII_COL,LCD_B5,EVENTOUT/ADC123_IN3", 40 PA4 "PA4/SPI1_NSS/I2S1_WS,SPI3_NSS/I2S3_WS,USART2_CK,OTG_HS_SOF,DCMI_HSYNC,LCD_VSYNC,EVENTOUT/ADC12_IN4,DAC_OUT1", 41 PA5 "PA5/TIM2_CH1/TIM2_ETR,TIM8_CH1N,SPI1_SCK/I2S1_CK,OTG_HS_ULPI_CK,LCD_R4,EVENTOUT/ADC12_IN5,DAC_OUT2", 42 PA6 "PA6/TIM1_BKIN,TIM3_CH1,TIM8_BKIN,SPI1_MISO,TIM13_CH1,DCMI_PIXCLK,LCD_G2,EVENTOUT/ADC12_IN6", 43 PA7 "PA7/TIM1_CH1N,TIM3_CH2,TIM8_CH1N,SPI1_MOSI/I2S1_SD,TIM14_CH1,ETH_MII_RX_DV/ETH_RMII_CRS_DV,FMC_SDNWE,EVENTOUT/ADC12_IN7", 44 PC4 "PC4/I2S1_MCK,SPDIFRX_IN2,ETH_MII_RXD0/ETH_RMII_RXD0,FMC_SDNE0,EVENTOUT/ADC12_IN14", 45 PC5 "PC5/SPDIFRX_IN3,ETH_MII_RXD1/ETH_RMII_RXD1,FMC_SDCKE0,EVENTOUT/ADC12_IN15", 46 PB0 "PB0/TIM1_CH2N,TIM3_CH3,TIM8_CH2N,UART4_CTS,LCD_R3,OTG_HS_ULPI_D1,ETH_MII_RXD2,EVENTOUT/ADC12_IN8", 47 PB1 "PB1/TIM1_CH3N,TIM3_CH4,TIM8_CH3N,LCD_R6,OTG_HS_ULPI_D2,ETH_MII_RXD3,EVENTOUT/ADC12_IN9", 48 PB2 "PB2/SAI1_SD_A,SPI3_MOSI/I2S3_SD,QUADSPI_CLK,EVENTOUT", 49 PF11 "PF11/SPI5_MOSI,SAI2_SD_B,FMC_SDNRAS,DCMI_D12,EVENTOUT", 50 PF12 "PF12/FMC_A6,EVENTOUT", 53 PF13 "PF13/I2C4_SMBA,FMC_A7,EVENTOUT", 54 PF14 "PF14/I2C4_SCL,FMC_A8,EVENTOUT", 55 PF15 "PF15/I2C4_SDA,FMC_A9,EVENTOUT", 58 PE7 "PE7/TIM1_ETR,UART7_RX,QUADSPI_BK2_IO0,FMC_D4,EVENTOUT", 59 PE8 "PE8/TIM1_CH1N,UART7_TX,QUADSPI_BK2_IO1,FMC_D5,EVENTOUT", 60 PE9 "PE9/TIM1_CH1,UART7_RTS,QUADSPI_BK2_IO2,FMC_D6,EVENTOUT", 63 PE10 "PE10/TIM1_CH2N,UART7_CTS,QUADSPI_BK2_IO3,FMC_D7,EVENTOUT", 64 PE11 "PE11/TIM1_CH2,SPI4_NSS,SAI2_SD_B,FMC_D8,LCD_G3,EVENTOUT", 65 PE12 "PE12/TIM1_CH3N,SPI4_SCK,SAI2_SCK_B,FMC_D9,LCD_B4,EVENTOUT", 66 PE13 "PE13/TIM1_CH3,SPI4_MISO,SAI2_FS_B,FMC_D10,LCD_DE,EVENTOUT", 67 PE14 "PE14/TIM1_CH4,SPI4_MOSI,SAI2_MCK_B,FMC_D11,LCD_CLK,EVENTOUT", 68 PE15 "PE15/TIM1_BKIN,FMC_D12,LCD_R7,EVENTOUT", 69 PB10 "PB10/TIM2_CH3,I2C2_SCL,SPI2_SCK/I2S2_CK,USART3_TX,OTG_HS_ULPI_D3,ETH_MII_RX_ER,LCD_G4,EVENTOUT", 70 PB11 "PB11/TIM2_CH4,I2C2_SDA,USART3_RX,OTG_HS_ULPI_D4,ETH_MII_TX_EN/ETH_RMII_TX_EN,LCD_G5,EVENTOUT", 73 PB12 "PB12/TIM1_BKIN,I2C2_SMBA,SPI2_NSS/I2S2_WS,USART3_CK,CAN2_RX,OTG_HS_ULPI_D5,ETH_MII_TXD0/ETH_RMII_TXD0,OTG_HS_ID,EVENTOUT", 74 PB13 "PB13/TIM1_CH1N,SPI2_SCK/I2S2_CK,USART3_CTS,CAN2_TX,OTG_HS_ULPI_D6,ETH_MII_TXD1/ETH_RMII_TXD1,EVENTOUT/OTG_HS_VBUS", 75 PB14 "PB14/TIM1_CH2N,TIM8_CH2N,SPI2_MISO,USART3_RTS,TIM12_CH1,OTG_HS_DM,EVENTOUT", 76 PB15 "PB15/RTC_REFIN,TIM1_CH3N,TIM8_CH3N,SPI2_MOSI/I2S2_SD,TIM12_CH2,OTG_HS_DP,EVENTOUT", 77 PD8 "PD8/USART3_TX,SPDIFRX_IN11,FMC_D13,EVENTOUT", 78 PD9 "PD9/USART3_RX,FMC_D14,EVENTOUT", 79 PD10 "PD10/USART3_CK,FMC_D15,LCD_B3,EVENTOUT", 80 PD11 "PD11/I2C4_SMBA,USART3_CTS,QUADSPI_BK1_IO0,SAI2_SD_A,FMC_A16/FMC_CLE,EVENTOUT", 81 PD12 "PD12/TIM4_CH1,LPTIM1_IN1,I2C4_SCL,USART3_RTS,QUADSPI_BK1_IO1,SAI2_FS_A,FMC_A17/FMC_ALE,EVENTOUT", 82 PD13 "PD13/TIM4_CH2,LPTIM1_OUT,I2C4_SDA,QUADSPI_BK1_IO3,SAI2_SCK_A,FMC_A18,EVENTOUT", 85 PD14 "PD14/TIM4_CH3,UART8_CTS,FMC_D0,EVENTOUT", 86 PD15 "PD15/TIM4_CH4,UART8_RTS,FMC_D1,EVENTOUT", 96 PC6 "PC6/TIM3_CH1,TIM8_CH1,I2S2_MCK,USART6_TX,SDMMC1_D6,DCMI_D0,LCD_HSYNC,EVENTOUT", 97 PC7 "PC7/TIM3_CH2,TIM8_CH2,I2S3_MCK,USART6_RX,SDMMC1_D7,DCMI_D1,LCD_G6,EVENTOUT", 98 PC8 "PC8/TRACED1,TIM3_CH3,TIM8_CH3,UART5_RTS,USART6_CK,SDMMC1_D0,DCMI_D2,EVENTOUT", 99 PC9 "PC9/MCO2,TIM3_CH4,TIM8_CH4,I2C3_SDA,I2S_CKIN,UART5_CTS,QUADSPI_BK1_IO0,SDMMC1_D1,DCMI_D3,EVENTOUT", 100 PA8 "PA8/MCO1,TIM1_CH1,TIM8_BKIN2,I2C3_SCL,USART1_CK,OTG_FS_SOF,LCD_R6,EVENTOUT", 101 PA9 "PA9/TIM1_CH2,I2C3_SMBA,SPI2_SCK/I2S2_CK,USART1_TX,DCMI_D0,EVENTOUT/OTG_FS_VBUS", 102 PA10 "PA10/TIM1_CH3,USART1_RX,OTG_FS_ID,DCMI_D1,EVENTOUT", 103 PA11 "PA11/TIM1_CH4,USART1_CTS,CAN1_RX,OTG_FS_DM,LCD_R4,EVENTOUT", 104 PA12 "PA12/TIM1_ETR,USART1_RTS,SAI2_FS_B,CAN1_TX,OTG_FS_DP,LCD_R5,EVENTOUT", 105 PA13 "PA13/JTMS-SWDIO,EVENTOUT", 109 PA14 "PA14/JTCK-SWCLK,EVENTOUT", 110 PA15 "PA15/JTDI,TIM2_CH1/TIM2_ETR,HDMI-CEC,SPI1_NSS/I2S1_WS,SPI3_NSS/I2S3_WS,UART4_RTS,EVENTOUT", 111 PC10 "PC10/SPI3_SCK/I2S3_CK,USART3_TX,UART4_TX,QUADSPI_BK1_IO1,SDMMC1_D2,DCMI_D8,LCD_R2,EVENTOUT", 112 PC11 "PC11/SPI3_MISO,USART3_RX,UART4_RX,QUADSPI_BK2_NCS,SDMMC1_D3,DCMI_D4,EVENTOUT", 113 PC12 "PC12/TRACED3,SPI3_MOSI/I2S3_SD,USART3_CK,UART5_TX,SDMMC1_CK,DCMI_D9,EVENTOUT", 114 PD0 "PD0/CAN1_RX,FMC_D2,EVENTOUT", 115 PD1 "PD1/CAN1_TX,FMC_D3,EVENTOUT", 116 PD2 "PD2/TRACED2,TIM3_ETR,UART5_RX,SDMMC1_CMD,DCMI_D11,EVENTOUT", 117 PD3 "PD3/SPI2_SCK/I2S2_CK,USART2_CTS,FMC_CLK,DCMI_D5,LCD_G7,EVENTOUT", 118 PD4 "PD4/USART2_RTS,FMC_NOE,EVENTOUT", 119 PD5 "PD5/USART2_TX,FMC_NWE,EVENTOUT", 122 PD6 "PD6/SPI3_MOSI/I2S3_SD,SAI1_SD_A,USART2_RX,FMC_NWAIT,DCMI_D10,LCD_B2,EVENTOUT", 123 PD7 "PD7/USART2_CK,SPDIFRX_IN0,FMC_NE1,EVENTOUT", 133 PB3 "PB3/JTDO/TRACESWO,TIM2_CH2,SPI1_SCK/I2S1_CK,SPI3_SCK/I2S3_CK,EVENTOUT", 134 PB4 "PB4/NJTRST,TIM3_CH1,SPI1_MISO,SPI3_MISO,SPI2_NSS/I2S2_WS,EVENTOUT", 135 PB5 "PB5/TIM3_CH2,I2C1_SMBA,SPI1_MOSI/I2S1_SD,SPI3_MOSI/I2S3_SD,CAN2_RX,OTG_HS_ULPI_D7,ETH_PPS_OUT,FMC_SDCKE1,DCMI_D10,EVENTOUT", 136 PB6 "PB6/TIM4_CH1,HDMI-CEC,I2C1_SCL,USART1_TX,CAN2_TX,QUADSPI_BK1_NCS,FMC_SDNE1,DCMI_D5,EVENTOUT", 137 PB7 "PB7/TIM4_CH2,I2C1_SDA,USART1_RX,FMC_NL,DCMI_VSYNC,EVENTOUT", 139 PB8 "PB8/TIM4_CH3,TIM10_CH1,I2C1_SCL,CAN1_RX,ETH_MII_TXD3,SDMMC1_D4,DCMI_D6,LCD_B6,EVENTOUT", 140 PB9 "PB9/TIM4_CH4,TIM11_CH1,I2C1_SDA,SPI2_NSS/I2S2_WS,CAN1_TX,SDMMC1_D5,DCMI_D7,LCD_B7,EVENTOUT", 141 PE0 "PE0/TIM4_ETR,LPTIM1_ETR,UART8_RX,SAI2_MCK_A,FMC_NBL0,DCMI_D2,EVENTOUT", 142 PE1 "PE1/LPTIM1_IN2,UART8_TX,FMC_NBL1,DCMI_D3,EVENTOUT"
part B pins: 23 PH0-OSC_IN "PH0/EVENTOUT/OSC_IN", 24 PH1-OSC_OUT "PH1/EVENTOUT/OSC_OUT", 25 NRST, 56 PG0 "PG0/FMC_A10,EVENTOUT", 57 PG1 "PG1/FMC_A11,EVENTOUT", 71 VCAP "VCAP_1", 87 PG2 "PG2/FMC_A12,EVENTOUT", 88 PG3 "PG3/FMC_A13,EVENTOUT", 89 PG4 "PG4/FMC_A14/FMC_BA0,EVENTOUT", 90 PG5 "PG5/FMC_A15/FMC_BA1,EVENTOUT", 91 PG6 "PG6/DCMI_D12,LCD_R7,EVENTOUT", 92 PG7 "PG7/USART6_CK,FMC_INT,DCMI_D13,LCD_CLK,EVENTOUT", 93 PG8 "PG8/SPI6_NSS,SPDIFRX_IN2,USART6_RTS,ETH_PPS_OUT,FMC_SDCLK,EVENTOUT", 106 VCAP "VCAP_2", 124 PG9 "PG9/SPDIFRX_IN3,USART6_RX,QUADSPI_BK2_IO2,SAI2_FS_B,FMC_NE2/FMC_NCE,DCMI_VSYNC,EVENTOUT", 125 PG10 "PG10/LCD_G3,SAI2_SD_B,FMC_NE3,DCMI_D2,LCD_B2,EVENTOUT", 126 PG11 "PG11/SPDIFRX_IN0,ETH_MII_TX_EN/ETH_RMII_TX_EN,DCMI_D3,LCD_B3,EVENTOUT", 127 PG12 "PG12/LPTIM1_IN1,SPI6_MISO,SPDIFRX_IN1,USART6_RTS,LCD_B4,FMC_NE4,LCD_B1,EVENTOUT", 128 PG13 "PG13/TRACED0,LPTIM1_OUT,SPI6_SCK,USART6_CTS,ETH_MII_TXD0/ETH_RMII_TXD0,FMC_A24,LCD_R0,EVENTOUT", 129 PG14 "PG14/TRACED1,LPTIM1_ETR,SPI6_MOSI,USART6_TX,QUADSPI_BK2_IO3,ETH_MII_TXD1/ETH_RMII_TXD1,FMC_A25,LCD_B0,EVENTOUT", 132 PG15 "PG15/USART6_CTS,FMC_SDNCAS,DCMI_D13,EVENTOUT", 138 BOOT0 "BOOT/VPP", 143 PDR_ON
part C pins: 6 VBAT, 16 VSS, 17 VDD, 30 VDD, 31 VSSA, 32 VREF+, 33 VDDA, 38 VSS, 39 VDD, 51 VSS, 52 VDD, 61 VSS, 62 VDD, 72 VDD, 83 VSS, 84 VDD, 94 VSS, 95 VDD33USB "VDDUSB", 107 VSS, 108 VDD, 120 VSS, 121 VDD, 130 VSS, 131 VDD, 144 VDD

## STM32L4X6R_T
designator U?
Ultra-low-power Arm® Cortex®-M4 32-bit MCU+FPU, 100DMIPS, / up to 1MB Flash, 320KB SRAM, USB OTG FS, audio, ext. SMPS; Value: *
footprint LQFP64 P0.5 C10.0x10.0 H1.6 (Thin QFP, 64-Leads, Body 10x10mm, Pitch 0.5mm, IPC Medium Density)
pins: 1 VBAT, 2 PC13, 3 PC14-OSC32_IN, 4 PC15-OSC32_OUT, 5 PH0-OSC_IN, 6 PH1-OSC_OUT, 7 NRST, 8 PC0, 9 PC1, 10 PC2, 11 PC3, 12 VSSA/VREF-, 13 VDDA/VREF+, 14 PA0, 15 PA1, 16 PA2, 17 PA3, 18 VSS, 19 VDD, 20 PA4, 21 PA5, 22 PA6, 23 PA7, 24 PC4, 25 PC5, 26 PB0, 27 PB1, 28 PB2, 29 PB10, 30 PB11, 31 VSS, 32 VDD, 33 PB12, 34 PB13, 35 PB14, 36 PB15, 37 PC6, 38 PC7, 39 PC8, 40 PC9, 41 PA8, 42 PA9, 43 PA10, 44 PA11, 45 PA12, 46 PA13, 47 VSS, 48 VDDUSB, 49 PA14, 50 PA15, 51 PC10, 52 PC11, 53 PC12, 54 PD2, 55 PB3, 56 PB4, 57 PB5, 58 PB6, 59 PB7, 60 PH3-BOOT0, 61 PB8, 62 PB9, 63 VSS, 64 VDD

## STM32L15_ZET
designator U?
Ultra-low-power 32-bit MCU ARM®-based Cortex®-M3 with 512KB  Flash, 80KB SRAM, 16KB EEPROM, LCD, USB, ADC, DAC; Value: *
footprint LQFP144 P0.5 C20.0x20.0 H1.6 (Thin QFP, 144-Leads, Body 20x20mm, Pitch 0.5mm, IPC Medium Density)
part A pins: 7 PC13-WKUP2 "PC13-WKUP2/PC13/WKUP2/RTC_TAMP1/RTC_TS/RTC_OUT", 8 PC14-OSC32_IN "PC14-OSC32_IN/PC14/OSC32_IN", 9 PC15-OSC32_OUT "PC15-OSC32_OUT/PC15/OSC32_OUT", 26 PC0 "PC0/LCD_SEG18/ADC_IN10/COMP1_INP", 27 PC1 "PC1/LCD_SEG19/ADC_IN11/COMP1_INP", 28 PC2 "PC2/LCD_SEG20/ADC_IN12/COMP1_INP", 29 PC3 "PC3/LCD_SEG21/ADC_IN13/COMP1_INP", 34 PA0-WKUP1 "PA0-WKUP1/PA0/WKUP1/RTC_TAMP2/TIM2_CH1_ETR/TIM5_CH1/USART2_CTS/ADC_IN0/COMP1_INP", 35 PA1 "PA1/TIM2_CH2/TIM5_CH2/USART2_RTS/LCD_SEG0/ADC_IN1/COMP1_INP/OPAMP1_VINP", 36 PA2 "PA2/TIM2_CH3/TIM5_CH3/TIM9_CH1/USART2_TX/LCD_SEG1/ADC_IN2/COMP1_INP/OPAMP1_VINM", 37 PA3 "PA3/TIM2_CH4/TIM5_CH4/TIM9_CH2/USART2_RX/LCD_SEG2/ADC_IN3/COMP1_INP/OPAMP1_VOUT", 40 PA4 "PA4/SPI1_NSS/SPI3_NSS/I2S3_WS/USART2_CK/ADC_IN4/DAC_OUT1/COMP1_INP", 41 PA5 "PA5/TIM2_CH1_ETR/SPI1_SCK/ADC_IN5/DAC_OUT2/COMP1_INP", 42 PA6 "PA6/TIM3_CH1/TIM10_CH1/SPI1_MISO/LCD_SEG3/ADC_IN6/COMP1_INP/OPAMP2_VINP", 43 PA7 "PA7/TIM3_CH2/TIM11_CH1/SPI1_MOSI/LCD_SEG4/ADC_IN7/COMP1_INP/OPAMP2_VINM", 44 PC4 "PC4/LCD_SEG22/ADC_IN14/COMP1_INP", 45 PC5 "PC5/LCD_SEG23/ADC_IN15/COMP1_INP", 46 PB0 "PB0/TIM3_CH3/LCD_SEG5/ADC_IN8/COMP1_INP/VREF_OUT/OPAMP2_VOUT", 47 PB1 "PB1/TIM3_CH4/LCD_SEG6/ADC_IN9/COMP1_INP/VREF_OUT", 48 PB2 "PB2/BOOT1/ADC_IN0B/COMP1_INP", 69 PB10 "PB10/TIM2_CH3/I2C2_SCL/USART3_TX/LCD_SEG10", 70 PB11 "PB11/TIM2_CH4/I2C2_SDA/USART3_RX/LCD_SEG11", 73 PB12 "PB12/TIM10_CH1/I2C2_SMBA/SPI2_NSS/I2S2_WS/USART3_CK/LCD_SEG12/ADC_IN18/COMP1_INP", 74 PB13 "PB13/TIM9_CH1/SPI2_SCK/I2S2_CK/USART3_CTS/LCD_SEG13/ADC_IN19/COMP1_INP", 75 PB14 "PB14/TIM9_CH2/SPI2_MISO/USART3_RTS/LCD_SEG14/ADC_IN20/COMP1_INP", 76 PB15 "PB15/TIM11_CH1/SPI2_MOSI/I2S2_SD/LCD_SEG15/ADC_IN21/COMP1_INP/RTC_REFIN", 77 PD8 "PD8/USART3_TX/LCD_SEG28", 78 PD9 "PD9/USART3_RX/LCD_SEG29", 79 PD10 "PD10/USART3_CK/LCD_SEG30", 80 PD11 "PD11/USART3_CTS/LCD_SEG31", 81 PD12 "PD12/TIM4_CH1/USART3_RTS/LCD_SEG32", 82 PD13 "PD13/TIM4_CH2/LCD_SEG33", 85 PD14 "PD14/TIM4_CH3/LCD_SEG34", 86 PD15 "PD15/TIM4_CH4/LCD_SEG35", 96 PC6 "PC6/TIM3_CH1/I2S2_MCK/LCD_SEG24", 97 PC7 "PC7/TIM3_CH2/I2S3_MCK/LCD_SEG25", 98 PC8 "PC8/TIM3_CH3/LCD_SEG26", 99 PC9 "PC9/TIM3_CH4/LCD_SEG27", 100 PA8 "PA8/USART1_CK/MCO/LCD_COM0", 101 PA9 "PA9/USART1_TX/LCD_COM1", 102 PA10 "PA10/USART1_RX/LCD_COM2", 103 PA11 "PA11/USART1_CTS/USB_DM/SPI1_MISO", 104 PA12 "PA12/USART1_RTS/USB_DP/SPI1_MOSI", 105 PA13 "PA13/JTMS-SWDAT", 109 PA14 "PA14/JTCK-SWCLK", 110 PA15 "PA15/JTDI/TIM2_CH1_ETR/SPI1_NSS/SPI3_NSS/I2S3_WS/LCD_SEG17", 111 PC10 "PC10/SPI3_SCK/I2S3_CK/USART3_TX/LCD_SEG28/LCD_SEG40/LCD_COM4", 112 PC11 "PC11/SPI3_MISO/USART3_RX/LCD_SEG29/LCD_SEG41/LCD_COM5", 113 PC12 "PC12/SPI3_MOSI/I2S3_SD/USART3_CK/LCD_SEG30/LCD_SEG42/LCD_COM6", 114 PD0 "PD0/TIM9_CH1/SPI2_NSS/I2S2_WS", 115 PD1 "PD1/SPI2_SCK/I2S2_CK", 116 PD2 "PD2/TIM3_ETR/LCD_SEG31/LCD_SEG43/LCD_COM7", 117 PD3 "PD3/SPI2_MISO/USART2_CTS", 118 PD4 "PD4/SPI2_MOSI/I2S2_SD/USART2_RTS", 119 PD5 "PD5/USART2_TX", 122 PD6 "PD6/USART2_RX", 123 PD7 "PD7/TIM9_CH2/USART2_CK", 133 PB3 "PB3/JTDO/TIM2_CH2/SPI1_SCK/SPI3_SCK/I2S3_CK/LCD_SEG7/COMP2_INM", 134 PB4 "PB4/NJTRST/TIM3_CH1/SPI1_MISO/SPI3_MISO/LCD_SEG8/COMP2_INP", 135 PB5 "PB5/TIM3_CH2/I2C1_SMBA/SPI1_MOSI/SPI3_MOSI/I2S3_SD/LCD_SEG9/COMP2_INP", 136 PB6 "PB6/TIM4_CH1/I2C1_SCL/USART1_TX/COMP2_INP", 137 PB7 "PB7/TIM4_CH2/I2C1_SDA/USART1_RX/PVD_IN/COMP2_INP", 139 PB8 "PB8/TIM4_CH3/TIM10_CH1/I2C1_SCL/LCD_SEG16", 140 PB9 "PB9/TIM4_CH4/TIM11_CH1/I2C1_SDA/LCD_COM3"
part B pins: 1 PE2 "PE2/TIM3_ETR/LCD_SEG38/TRACECLK", 2 PE3 "PE3/TIM3_CH1/LCD_SEG39/TRACED0", 3 PE4 "PE4/TIM3_CH2/TRACED1", 4 PE5 "PE5/TIM9_CH1/TRACED2", 5 PE6-WKUP3 "PE6-WKUP3/PE6/WKUP3/RTC_TAMP3/TIM9_CH2/TRACED3", 10 PF0, 11 PF1, 12 PF2, 13 PF3, 14 PF4, 15 PF5, 18 PF6 "PF6/TIM5_CH1/TIM5_ETR/ADC_IN27", 19 PF7 "PF7/TIM5_CH2/ADC_IN28/COMP1_INP", 20 PF8 "PF8/TIM5_CH3/ADC_IN29/COMP1_INP", 21 PF9 "PF9/TIM5_CH4/ADC_IN30/COMP1_INP", 22 PF10 "PF10/ADC_IN30/COMP1_INP", 23 PH0-OSC_IN "PH0-OSC_IN/PH0/OSC_IN", 24 PH1-OSC_OUT "PH1-OSC_OUT/PH1/OSC_OUT", 25 NRST, 49 PF11 "PF11/ADC_IN1B/COMP1_INP", 50 PF12 "PF12/ADC_IN2B/COMP1_INP", 53 PF13 "PF13/ADC_IN3B/COMP1_INP", 54 PF14 "PF14/ADC_IN6B/COMP1_INP", 55 PF15 "PF15/ADC_IN7B/COMP1_INP", 56 PG0 "PG0/ADC_IN8B/COMP1_INP", 57 PG1 "PG1/ADC_IN9B/COMP1_INP", 58 PE7 "PE7/ADC_IN22/COMP1_INP", 59 PE8 "PE8/ADC_IN23/COMP1_INP", 60 PE9 "PE9/TIM2_CH1_ETR/ADC_IN24/COMP1_INP", 63 PE10 "PE10/TIM2_CH2/ADC_IN25/COMP1_INP", 64 PE11 "PE11/TIM2_CH3", 65 PE12 "PE12/TIM2_CH4/SPI1_NSS", 66 PE13 "PE13/SPI1_SCK", 67 PE14 "PE14/SPI1_MISO", 68 PE15 "PE15/SPI1_MOSI", 87 PG2 "PG2/ADC_IN10B/COMP1_INP", 88 PG3 "PG3/ADC_IN11B/COMP1_INP", 89 PG4 "PG4/ADC_IN12B/COMP1_INP", 90 PG5, 91 PG6, 92 PG7, 93 PG8, 106 PH2, 124 PG9, 125 PG10, 126 PG11, 127 PG12, 128 PG13, 129 PG14, 132 PG15, 138 BOOT0, 141 PE0 "PE0/TIM4_ETR/TIM10_CH1/LCD_SEG36", 142 PE1 "PE1/TIM11_CH1/LCD_SEG37"
part C pins: 6 VLCD, 16 VSS_5, 17 VDD_5, 30 VSSA, 31 VREF-, 32 VREF+, 33 VDDA, 38 VSS_4, 39 VDD_4, 51 VSS_6, 52 VDD_6, 61 VSS_7, 62 VDD_7, 71 VSS_1, 72 VDD_1, 83 VSS_8, 84 VDD_8, 94 VSS_9, 95 VDD_9, 107 VSS_2, 108 VDD_2, 120 VSS_10, 121 VDD_10, 130 VSS_11, 131 VDD_11, 143 VSS_3, 144 VDD_3

## STM32L031K_
designator U?
General Purpose, 16-Bit Flash Microcontrollers with  Cryptographic Engine; Value: STM32L031K_
footprint LQFP32 P0.8 C7.0x7.0 H1.6 (TQFP, 32-Leads, Body 7.00x7.00mm, Pitch 0.80mm, IPC Medium Density)
pins: 1 VDD, 2 PC14-OSC IN, 3 PA15-OSC32 OUT, 4 NRST, 5 VDDA, 6 PA0, 7 PA1, 8 PA2, 9 PA3, 10 PA4, 11 PA5, 12 PA6, 13 PA7, 14 PB0, 15 PB1, 16 VSS, 17 VDD, 18 PA8, 19 PA9, 20 PA10, 21 PA11, 22 PA12, 23 PA13, 24 PA14, 25 PA15, 26 PB3, 27 PB4, 28 PB5, 29 PB6, 30 PB7, 31 BOOT0, 32 VSS

## STM32L431C_U_
designator U?
Ultra-low-power Arm® Cortex®-M4 32-bit MCU+FPU; Value: STM32L431C_U_
footprint QFN48 P0.5 T5.5X5.5 C7.0X7.0 H1.0 (QFN, 48-Leads, Body 7x7mm, Pitch 0.5mm, Thermal Pad 5.5x5.5mm, IPC High Density)
pins: 1 VBAT, 2 PC13, 3 PC14-_OSC32_IN, 4 PC15-OSC32_OUT, 5 PH0-_OSC_IN, 6 PH1-_OSC_OUT, 7 NRST, 8 VSSA/VREF-, 9 VDDA/VREF+, 10 PA0, 11 PA1, 12 PA2, 13 PA3, 14 PA4, 15 PA5, 16 PA6, 17 PA7, 18 PB0, 19 PB1, 20 PB2, 21 PB10, 22 PB11, 23 VSS, 24 VDD, 25 PB12, 26 PB13, 27 PB14, 28 PB15, 29 PA8, 30 PA9, 31 PA10, 32 PA11, 33 PA12, 34 PA13, 35 VSS, 36 VDD, 37 PA14, 38 PA15, 39 PB3, 40 PB4, 41 PB5, 42 PB6, 43 PB7, 44 PH3/BOOT0, 45 PB8, 46 PB9, 47 VSS, 48 VDD, 49 EP

## STM32L431K_U
designator U?
Ultra-low-power Arm® Cortex®-M4 32-bit MCU; Value: STM32L431K_U
footprint QFN32 P0.5 T3.45x3.45 C5.0X5.0 H0.6 (QFN32 Pitch0.5 Thermal 3.45x3.45 Case 5.0X5.0 Height0.6)
pins: 1 VDD, 2 PC14-OSC32 IN, 3 PC15-OSC32 OUT, 4 ~{RST}, 5 VDDA/VREF+, 6 PA0/CK IN, 7 PA1, 8 PA2, 9 PA3, 10 PA4, 11 PA5, 12 PA6, 13 PA7, 14 PB0, 15 PB1, 16 VSS, 17 VDD, 18 PA8, 19 PA9, 20 PA10, 21 PA11, 22 PA12, 23 PA13, 24 PA14, 25 PA15, 26 PB3, 27 PB4, 28 PB5, 29 PB6, 30 PB7, 31 PH3/BOOT0, 32 VSS, 33 EP

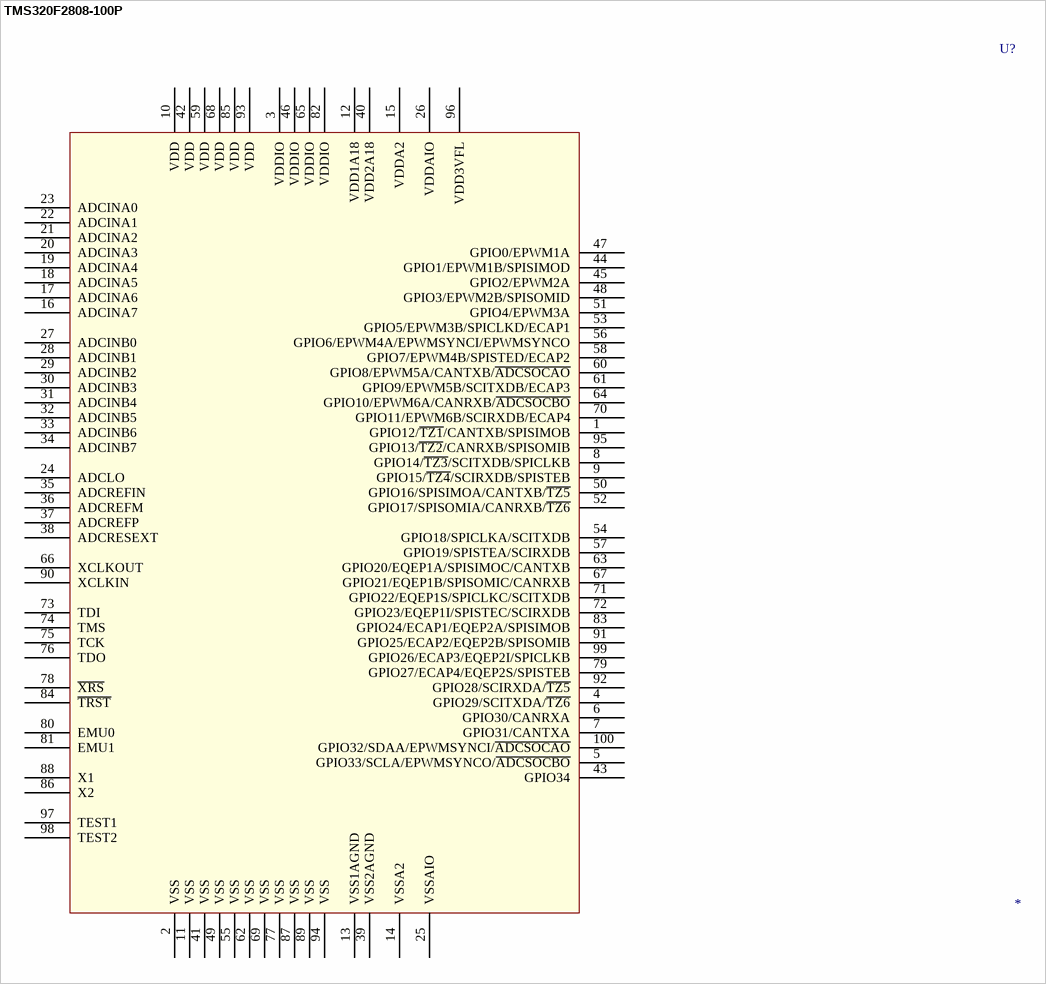
[diagram p18: symbol TMS320F2808-100P]

## TMS320F2808-100P
designator U?
TMS320F2808-100P; Value: *
footprint QFP100 P0.5 C14X14 H1.4 (QFP, 100-Leads, Body 14x14mm, Pitch 0.5mm, IPC Medium Density)
pins: 1 GPIO12/~{TZ1}/CANTXB/SPISIMOB, 2 VSS, 3 VDDIO, 4 GPIO29/SCITXDA/~{TZ6}, 5 GPIO33/SCLA/EPWMSYNCO/~{ADCSOCBO}, 6 GPIO30/CANRXA, 7 GPIO31/CANTXA, 8 GPIO14/~{TZ3}/SCITXDB/SPICLKB, 9 GPIO15/~{TZ4}/SCIRXDB/SPISTEB, 10 VDD, 11 VSS, 12 VDD1A18, 13 VSS1AGND, 14 VSSA2, 15 VDDA2, 16 ADCINA7, 17 ADCINA6, 18 ADCINA5, 19 ADCINA4, 20 ADCINA3, 21 ADCINA2, 22 ADCINA1, 23 ADCINA0, 24 ADCLO, 25 VSSAIO, 26 VDDAIO, 27 ADCINB0, 28 ADCINB1, 29 ADCINB2, 30 ADCINB3, 31 ADCINB4, 32 ADCINB5, 33 ADCINB6, 34 ADCINB7, 35 ADCREFIN, 36 ADCREFM, 37 ADCREFP, 38 ADCRESEXT, 39 VSS2AGND, 40 VDD2A18, 41 VSS, 42 VDD, 43 GPIO34, 44 GPIO1/EPWM1B/SPISIMOD, 45 GPIO2/EPWM2A, 46 VDDIO, 47 GPIO0/EPWM1A, 48 GPIO3/EPWM2B/SPISOMID, 49 VSS, 50 GPIO16/SPISIMOA/CANTXB/~{TZ5}, 51 GPIO4/EPWM3A, 52 GPIO17/SPISOMIA/CANRXB/~{TZ6}, 53 GPIO5/EPWM3B/SPICLKD/ECAP1, 54 GPIO18/SPICLKA/SCITXDB, 55 VSS, 56 GPIO6/EPWM4A/EPWMSYNCI/EPWMSYNCO, 57 GPIO19/SPISTEA/SCIRXDB, 58 GPIO7/EPWM4B/SPISTED/ECAP2, 59 VDD, 60 GPIO8/EPWM5A/CANTXB/~{ADCSOCAO}, 61 GPIO9/EPWM5B/SCITXDB/ECAP3, 62 VSS, 63 GPIO20/EQEP1A/SPISIMOC/CANTXB, 64 GPIO10/EPWM6A/CANRXB/~{ADCSOCBO}, 65 VDDIO, 66 XCLKOUT, 67 GPIO21/EQEP1B/SPISOMIC/CANRXB, 68 VDD, 69 VSS, 70 GPIO11/EPWM6B/SCIRXDB/ECAP4, 71 GPIO22/EQEP1S/SPICLKC/SCITXDB, 72 GPIO23/EQEP1I/SPISTEC/SCIRXDB, 73 TDI, 74 TMS, 75 TCK, 76 TDO, 77 VSS, 78 ~{XRS}, 79 GPIO27/ECAP4/EQEP2S/SPISTEB, 80 EMU0, 81 EMU1, 82 VDDIO, 83 GPIO24/ECAP1/EQEP2A/SPISIMOB, 84 ~{TRST}, 85 VDD, 86 X2, 87 VSS, 88 X1, 89 VSS, 90 XCLKIN, 91 GPIO25/ECAP2/EQEP2B/SPISOMIB, 92 GPIO28/SCIRXDA/~{TZ5}, 93 VDD, 94 VSS, 95 GPIO13/~{TZ2}/CANRXB/SPISOMIB, 96 VDD3VFL, 97 TEST1, 98 TEST2, 99 GPIO26/ECAP3/EQEP2I/SPICLKB, 100 GPIO32/SDAA/EPWMSYNCI/~{ADCSOCAO}

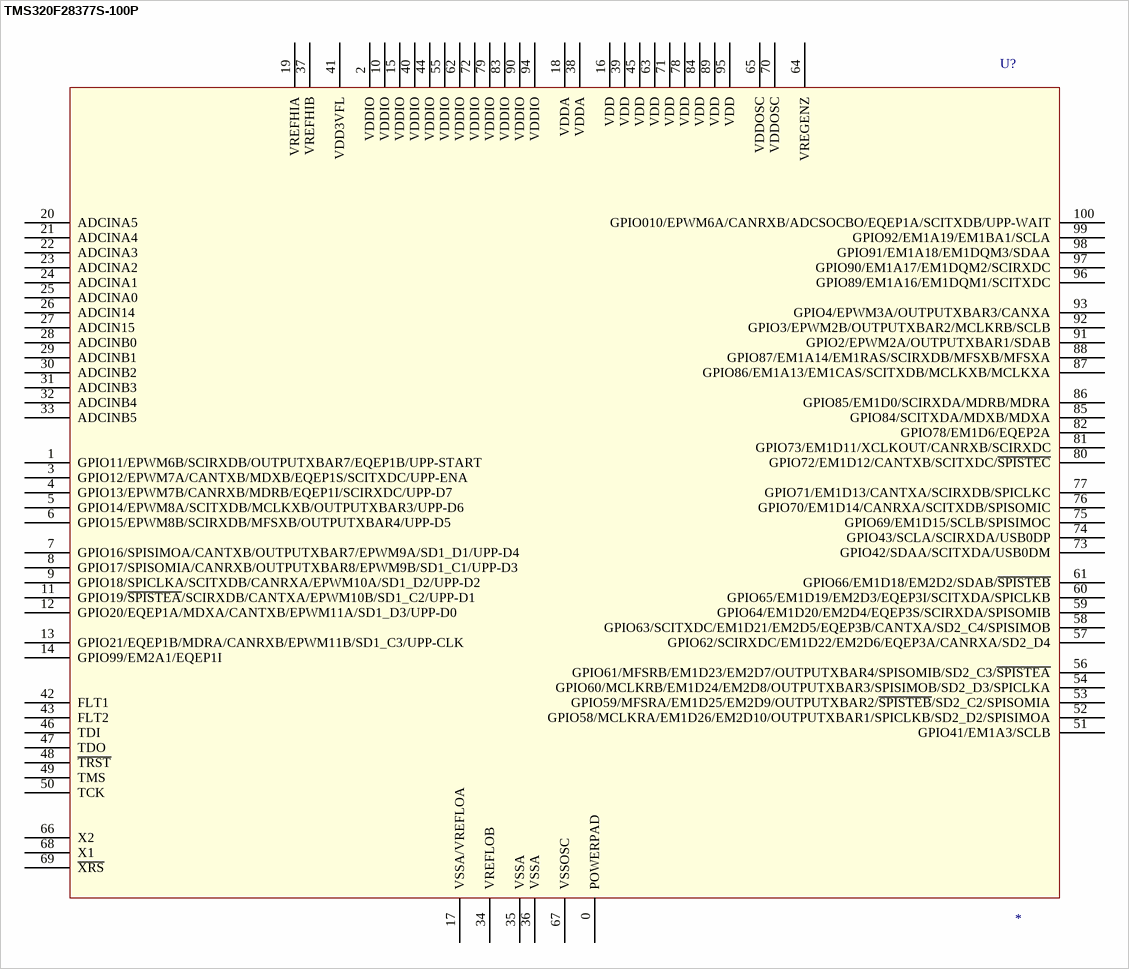
[diagram p19: symbol TMS320F28377S-100P]

## TMS320F28377S-100P
designator U?
TMS320F28377S-100P; Value: *
footprint TQFP100 P0.5 T8.6X8.6 C14X14 H1.2 (TSQFP, 100-Leads, Body 14.00x14.00mm, Pitch 0.50mm, Thermal Pad 8.64x8.64mm, IPC High Density)
pins: 0 POWERPAD, 1 GPIO11/EPWM6B/SCIRXDB/OUTPUTXBAR7/EQEP1B/UPP-START, 2 VDDIO, 3 GPIO12/EPWM7A/CANTXB/MDXB/EQEP1S/SCITXDC/UPP-ENA, 4 GPIO13/EPWM7B/CANRXB/MDRB/EQEP1I/SCIRXDC/UPP-D7, 5 GPIO14/EPWM8A/SCITXDB/MCLKXB/OUTPUTXBAR3/UPP-D6, 6 GPIO15/EPWM8B/SCIRXDB/MFSXB/OUTPUTXBAR4/UPP-D5, 7 GPIO16/SPISIMOA/CANTXB/OUTPUTXBAR7/EPWM9A/SD1_D1/UPP-D4, 8 GPIO17/SPISOMIA/CANRXB/OUTPUTXBAR8/EPWM9B/SD1_C1/UPP-D3, 9 GPIO18/SPICLKA/SCITXDB/CANRXA/EPWM10A/SD1_D2/UPP-D2, 10 VDDIO, 11 GPIO19/~{SPISTEA}/SCIRXDB/CANTXA/EPWM10B/SD1_C2/UPP-D1, 12 GPIO20/EQEP1A/MDXA/CANTXB/EPWM11A/SD1_D3/UPP-D0, 13 GPIO21/EQEP1B/MDRA/CANRXB/EPWM11B/SD1_C3/UPP-CLK, 14 GPIO99/EM2A1/EQEP1I, 15 VDDIO, 16 VDD, 17 VSSA/VREFLOA, 18 VDDA, 19 VREFHIA, 20 ADCINA5, 21 ADCINA4, 22 ADCINA3, 23 ADCINA2, 24 ADCINA1, 25 ADCINA0, 26 ADCIN14, 27 ADCIN15, 28 ADCINB0, 29 ADCINB1, 30 ADCINB2, 31 ADCINB3, 32 ADCINB4, 33 ADCINB5, 34 VREFLOB, 35 VSSA, 36 VSSA, 37 VREFHIB, 38 VDDA, 39 VDD, 40 VDDIO, 41 VDD3VFL, 42 FLT1, 43 FLT2, 44 VDDIO, 45 VDD, 46 TDI, 47 TDO, 48 ~{TRST}, 49 TMS, 50 TCK, 51 GPIO41/EM1A3/SCLB, 52 GPIO58/MCLKRA/EM1D26/EM2D10/OUTPUTXBAR1/SPICLKB/SD2_D2/SPISIMOA, 53 GPIO59/MFSRA/EM1D25/EM2D9/OUTPUTXBAR2/~{SPISTEB}/SD2_C2/SPISOMIA, 54 GPIO60/MCLKRB/EM1D24/EM2D8/OUTPUTXBAR3/SPISIMOB/SD2_D3/SPICLKA, 55 VDDIO, 56 GPIO61/MFSRB/EM1D23/EM2D7/OUTPUTXBAR4/SPISOMIB/SD2_C3/~{SPISTEA}, 57 GPIO62/SCIRXDC/EM1D22/EM2D6/EQEP3A/CANRXA/SD2_D4, 58 GPIO63/SCITXDC/EM1D21/EM2D5/EQEP3B/CANTXA/SD2_C4/SPISIMOB, 59 GPIO64/EM1D20/EM2D4/EQEP3S/SCIRXDA/SPISOMIB, 60 GPIO65/EM1D19/EM2D3/EQEP3I/SCITXDA/SPICLKB, 61 GPIO66/EM1D18/EM2D2/SDAB/~{SPISTEB}, 62 VDDIO, 63 VDD, 64 VREGENZ, 65 VDDOSC, 66 X2, 67 VSSOSC, 68 X1, 69 ~{XRS}, 70 VDDOSC, 71 VDD, 72 VDDIO, 73 GPIO42/SDAA/SCITXDA/USB0DM, 74 GPIO43/SCLA/SCIRXDA/USB0DP, 75 GPIO69/EM1D15/SCLB/SPISIMOC, 76 GPIO70/EM1D14/CANRXA/SCITXDB/SPISOMIC, 77 GPIO71/EM1D13/CANTXA/SCIRXDB/SPICLKC, 78 VDD, 79 VDDIO, 80 GPIO72/EM1D12/CANTXB/SCITXDC/~{SPISTEC}, 81 GPIO73/EM1D11/XCLKOUT/CANRXB/SCIRXDC, 82 GPIO78/EM1D6/EQEP2A, 83 VDDIO, 84 VDD, 85 GPIO84/SCITXDA/MDXB/MDXA, 86 GPIO85/EM1D0/SCIRXDA/MDRB/MDRA, 87 GPIO86/EM1A13/EM1CAS/SCITXDB/MCLKXB/MCLKXA, 88 GPIO87/EM1A14/EM1RAS/SCIRXDB/MFSXB/MFSXA, 89 VDD, 90 VDDIO, 91 GPIO2/EPWM2A/OUTPUTXBAR1/SDAB, 92 GPIO3/EPWM2B/OUTPUTXBAR2/MCLKRB/SCLB, 93 GPIO4/EPWM3A/OUTPUTXBAR3/CANXA, 94 VDDIO, 95 VDD, 96 GPIO89/EM1A16/EM1DQM1/SCITXDC, 97 GPIO90/EM1A17/EM1DQM2/SCIRXDC, 98 GPIO91/EM1A18/EM1DQM3/SDAA, 99 GPIO92/EM1A19/EM1BA1/SCLA, 100 GPIO010/EPWM6A/CANRXB/ADCSOCBO/EQEP1A/SCITXDB/UPP-WAIT

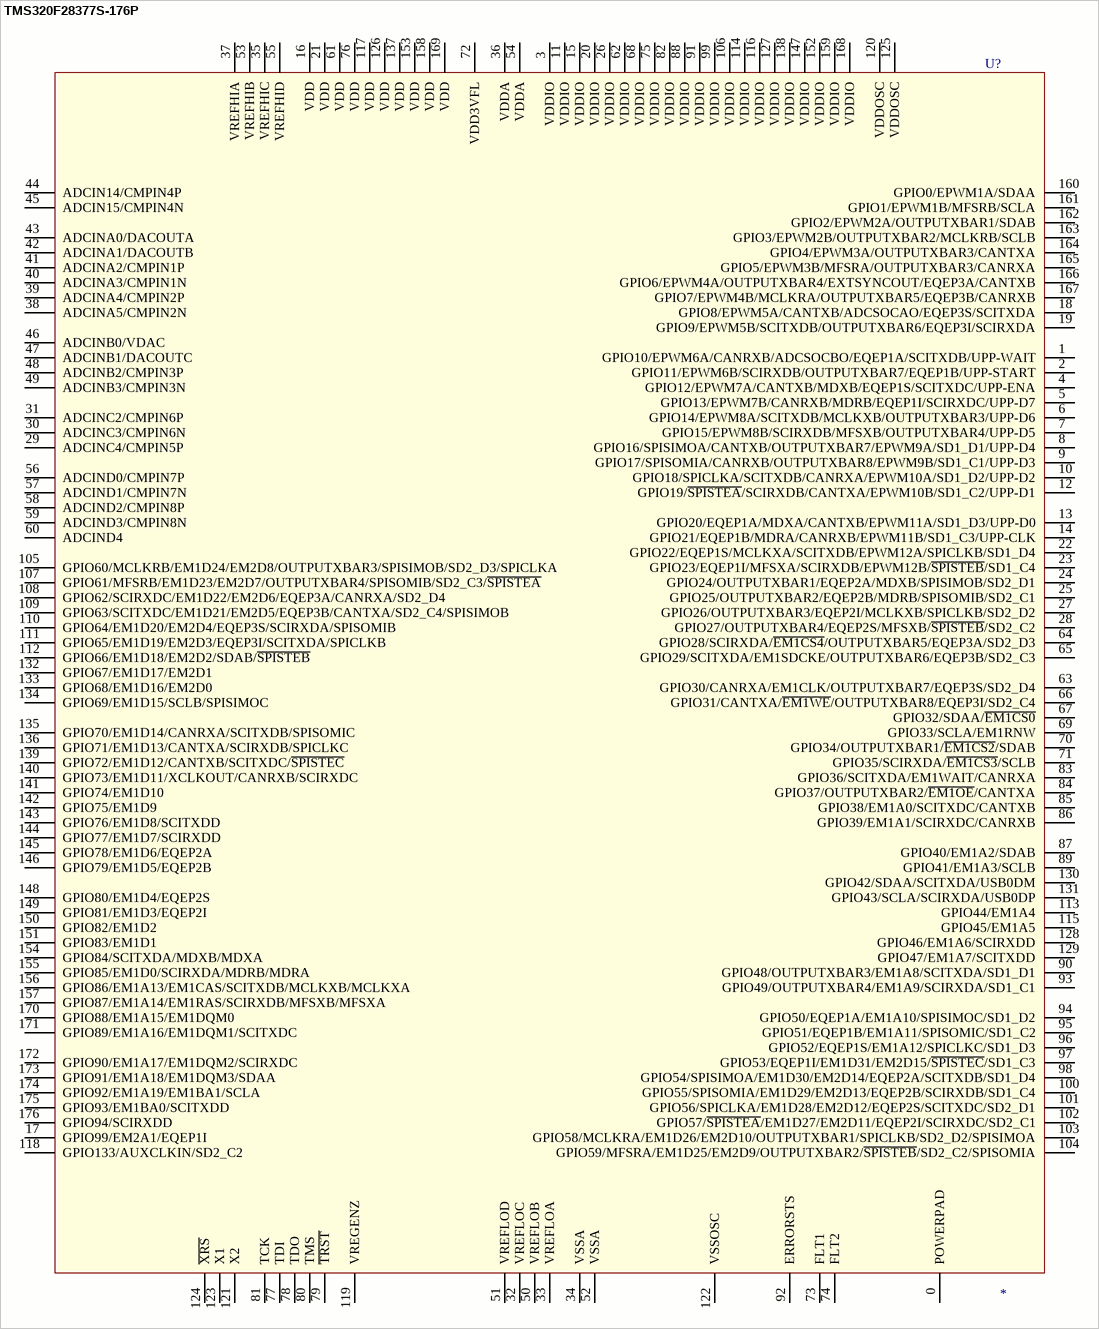
[diagram p20: symbol TMS320F28377S-176P]

## TMS320F28377S-176P
designator U?
TMS320F28377S-176P; Value: *
footprint PQFP176 P0.5 C24.2X24.2 H1.5
pins: 0 POWERPAD, 1 GPIO10/EPWM6A/CANRXB/ADCSOCBO/EQEP1A/SCITXDB/UPP-WAIT, 2 GPIO11/EPWM6B/SCIRXDB/OUTPUTXBAR7/EQEP1B/UPP-START, 3 VDDIO, 4 GPIO12/EPWM7A/CANTXB/MDXB/EQEP1S/SCITXDC/UPP-ENA, 5 GPIO13/EPWM7B/CANRXB/MDRB/EQEP1I/SCIRXDC/UPP-D7, 6 GPIO14/EPWM8A/SCITXDB/MCLKXB/OUTPUTXBAR3/UPP-D6, 7 GPIO15/EPWM8B/SCIRXDB/MFSXB/OUTPUTXBAR4/UPP-D5, 8 GPIO16/SPISIMOA/CANTXB/OUTPUTXBAR7/EPWM9A/SD1_D1/UPP-D4, 9 GPIO17/SPISOMIA/CANRXB/OUTPUTXBAR8/EPWM9B/SD1_C1/UPP-D3, 10 GPIO18/SPICLKA/SCITXDB/CANRXA/EPWM10A/SD1_D2/UPP-D2, 11 VDDIO, 12 GPIO19/~{SPISTEA}/SCIRXDB/CANTXA/EPWM10B/SD1_C2/UPP-D1, 13 GPIO20/EQEP1A/MDXA/CANTXB/EPWM11A/SD1_D3/UPP-D0, 14 GPIO21/EQEP1B/MDRA/CANRXB/EPWM11B/SD1_C3/UPP-CLK, 15 VDDIO, 16 VDD, 17 GPIO99/EM2A1/EQEP1I, 18 GPIO8/EPWM5A/CANTXB/ADCSOCAO/EQEP3S/SCITXDA, 19 GPIO9/EPWM5B/SCITXDB/OUTPUTXBAR6/EQEP3I/SCIRXDA, 20 VDDIO, 21 VDD, 22 GPIO22/EQEP1S/MCLKXA/SCITXDB/EPWM12A/SPICLKB/SD1_D4, 23 GPIO23/EQEP1I/MFSXA/SCIRXDB/EPWM12B/~{SPISTEB}/SD1_C4, 24 GPIO24/OUTPUTXBAR1/EQEP2A/MDXB/SPISIMOB/SD2_D1, 25 GPIO25/OUTPUTXBAR2/EQEP2B/MDRB/SPISOMIB/SD2_C1, 26 VDDIO, 27 GPIO26/OUTPUTXBAR3/EQEP2I/MCLKXB/SPICLKB/SD2_D2, 28 GPIO27/OUTPUTXBAR4/EQEP2S/MFSXB/~{SPISTEB}/SD2_C2, 29 ADCINC4/CMPIN5P, 30 ADCINC3/CMPIN6N, 31 ADCINC2/CMPIN6P, 32 VREFLOC, 33 VREFLOA, 34 VSSA, 35 VREFHIC, 36 VDDA, 37 VREFHIA, 38 ADCINA5/CMPIN2N, 39 ADCINA4/CMPIN2P, 40 ADCINA3/CMPIN1N, 41 ADCINA2/CMPIN1P, 42 ADCINA1/DACOUTB, 43 ADCINA0/DACOUTA, 44 ADCIN14/CMPIN4P, 45 ADCIN15/CMPIN4N, 46 ADCINB0/VDAC, 47 ADCINB1/DACOUTC, 48 ADCINB2/CMPIN3P, 49 ADCINB3/CMPIN3N, 50 VREFLOB, 51 VREFLOD, 52 VSSA, 53 VREFHIB, 54 VDDA, 55 VREFHID, 56 ADCIND0/CMPIN7P, 57 ADCIND1/CMPIN7N, 58 ADCIND2/CMPIN8P, 59 ADCIND3/CMPIN8N, 60 ADCIND4, 61 VDD, 62 VDDIO, 63 GPIO30/CANRXA/EM1CLK/OUTPUTXBAR7/EQEP3S/SD2_D4, 64 GPIO28/SCIRXDA/~{EM1CS4}/OUTPUTXBAR5/EQEP3A/SD2_D3, 65 GPIO29/SCITXDA/EM1SDCKE/OUTPUTXBAR6/EQEP3B/SD2_C3, 66 GPIO31/CANTXA/~{EM1WE}/OUTPUTXBAR8/EQEP3I/SD2_C4, 67 GPIO32/SDAA/~{EM1CS0}, 68 VDDIO, 69 GPIO33/SCLA/EM1RNW, 70 GPIO34/OUTPUTXBAR1/~{EM1CS2}/SDAB, 71 GPIO35/SCIRXDA/~{EM1CS3}/SCLB, 72 VDD3VFL, 73 FLT1, 74 FLT2, 75 VDDIO, 76 VDD, 77 TDI, 78 TDO, 79 ~{TRST}, 80 TMS, 81 TCK, 82 VDDIO, 83 GPIO36/SCITXDA/EM1WAIT/CANRXA, 84 GPIO37/OUTPUTXBAR2/~{EM1OE}/CANTXA, 85 GPIO38/EM1A0/SCITXDC/CANTXB, 86 GPIO39/EM1A1/SCIRXDC/CANRXB, 87 GPIO40/EM1A2/SDAB, 88 VDDIO, 89 GPIO41/EM1A3/SCLB, 90 GPIO48/OUTPUTXBAR3/EM1A8/SCITXDA/SD1_D1, 91 VDDIO, 92 ERRORSTS, 93 GPIO49/OUTPUTXBAR4/EM1A9/SCIRXDA/SD1_C1, 94 GPIO50/EQEP1A/EM1A10/SPISIMOC/SD1_D2, 95 GPIO51/EQEP1B/EM1A11/SPISOMIC/SD1_C2, 96 GPIO52/EQEP1S/EM1A12/SPICLKC/SD1_D3, 97 GPIO53/EQEP1I/EM1D31/EM2D15/~{SPISTEC}/SD1_C3, 98 GPIO54/SPISIMOA/EM1D30/EM2D14/EQEP2A/SCITXDB/SD1_D4, 99 VDDIO, 100 GPIO55/SPISOMIA/EM1D29/EM2D13/EQEP2B/SCIRXDB/SD1_C4, 101 GPIO56/SPICLKA/EM1D28/EM2D12/EQEP2S/SCITXDC/SD2_D1, 102 GPIO57/~{SPISTEA}/EM1D27/EM2D11/EQEP2I/SCIRXDC/SD2_C1, 103 GPIO58/MCLKRA/EM1D26/EM2D10/OUTPUTXBAR1/SPICLKB/SD2_D2/SPISIMOA, 104 GPIO59/MFSRA/EM1D25/EM2D9/OUTPUTXBAR2/~{SPISTEB}/SD2_C2/SPISOMIA, 105 GPIO60/MCLKRB/EM1D24/EM2D8/OUTPUTXBAR3/SPISIMOB/SD2_D3/SPICLKA, 106 VDDIO, 107 GPIO61/MFSRB/EM1D23/EM2D7/OUTPUTXBAR4/SPISOMIB/SD2_C3/~{SPISTEA}, 108 GPIO62/SCIRXDC/EM1D22/EM2D6/EQEP3A/CANRXA/SD2_D4, 109 GPIO63/SCITXDC/EM1D21/EM2D5/EQEP3B/CANTXA/SD2_C4/SPISIMOB, 110 GPIO64/EM1D20/EM2D4/EQEP3S/SCIRXDA/SPISOMIB, 111 GPIO65/EM1D19/EM2D3/EQEP3I/SCITXDA/SPICLKB, 112 GPIO66/EM1D18/EM2D2/SDAB/~{SPISTEB}, 113 GPIO44/EM1A4, 114 VDDIO, 115 GPIO45/EM1A5, 116 VDDIO, 117 VDD, 118 GPIO133/AUXCLKIN/SD2_C2, 119 VREGENZ, 120 VDDOSC, 121 X2, 122 VSSOSC, 123 X1, 124 ~{XRS}, 125 VDDOSC, 126 VDD, 127 VDDIO, 128 GPIO46/EM1A6/SCIRXDD, 129 GPIO47/EM1A7/SCITXDD, 130 GPIO42/SDAA/SCITXDA/USB0DM, 131 GPIO43/SCLA/SCIRXDA/USB0DP, 132 GPIO67/EM1D17/EM2D1, 133 GPIO68/EM1D16/EM2D0, 134 GPIO69/EM1D15/SCLB/SPISIMOC, 135 GPIO70/EM1D14/CANRXA/SCITXDB/SPISOMIC, 136 GPIO71/EM1D13/CANTXA/SCIRXDB/SPICLKC, 137 VDD, 138 VDDIO, 139 GPIO72/EM1D12/CANTXB/SCITXDC/~{SPISTEC}, 140 GPIO73/EM1D11/XCLKOUT/CANRXB/SCIRXDC, 141 GPIO74/EM1D10, 142 GPIO75/EM1D9, 143 GPIO76/EM1D8/SCITXDD, 144 GPIO77/EM1D7/SCIRXDD, 145 GPIO78/EM1D6/EQEP2A, 146 GPIO79/EM1D5/EQEP2B, 147 VDDIO, 148 GPIO80/EM1D4/EQEP2S, 149 GPIO81/EM1D3/EQEP2I, 150 GPIO82/EM1D2, 151 GPIO83/EM1D1, 152 VDDIO, 153 VDD, 154 GPIO84/SCITXDA/MDXB/MDXA, 155 GPIO85/EM1D0/SCIRXDA/MDRB/MDRA, 156 GPIO86/EM1A13/EM1CAS/SCITXDB/MCLKXB/MCLKXA, 157 GPIO87/EM1A14/EM1RAS/SCIRXDB/MFSXB/MFSXA, 158 VDD, 159 VDDIO, 160 GPIO0/EPWM1A/SDAA, 161 GPIO1/EPWM1B/MFSRB/SCLA, 162 GPIO2/EPWM2A/OUTPUTXBAR1/SDAB, 163 GPIO3/EPWM2B/OUTPUTXBAR2/MCLKRB/SCLB, 164 GPIO4/EPWM3A/OUTPUTXBAR3/CANTXA, 165 GPIO5/EPWM3B/MFSRA/OUTPUTXBAR3/CANRXA, 166 GPIO6/EPWM4A/OUTPUTXBAR4/EXTSYNCOUT/EQEP3A/CANTXB, 167 GPIO7/EPWM4B/MCLKRA/OUTPUTXBAR5/EQEP3B/CANRXB, 168 VDDIO, 169 VDD, 170 GPIO88/EM1A15/EM1DQM0, 171 GPIO89/EM1A16/EM1DQM1/SCITXDC, 172 GPIO90/EM1A17/EM1DQM2/SCIRXDC, 173 GPIO91/EM1A18/EM1DQM3/SDAA, 174 GPIO92/EM1A19/EM1BA1/SCLA, 175 GPIO93/EM1BA0/SCITXDD, 176 GPIO94/SCIRXDD

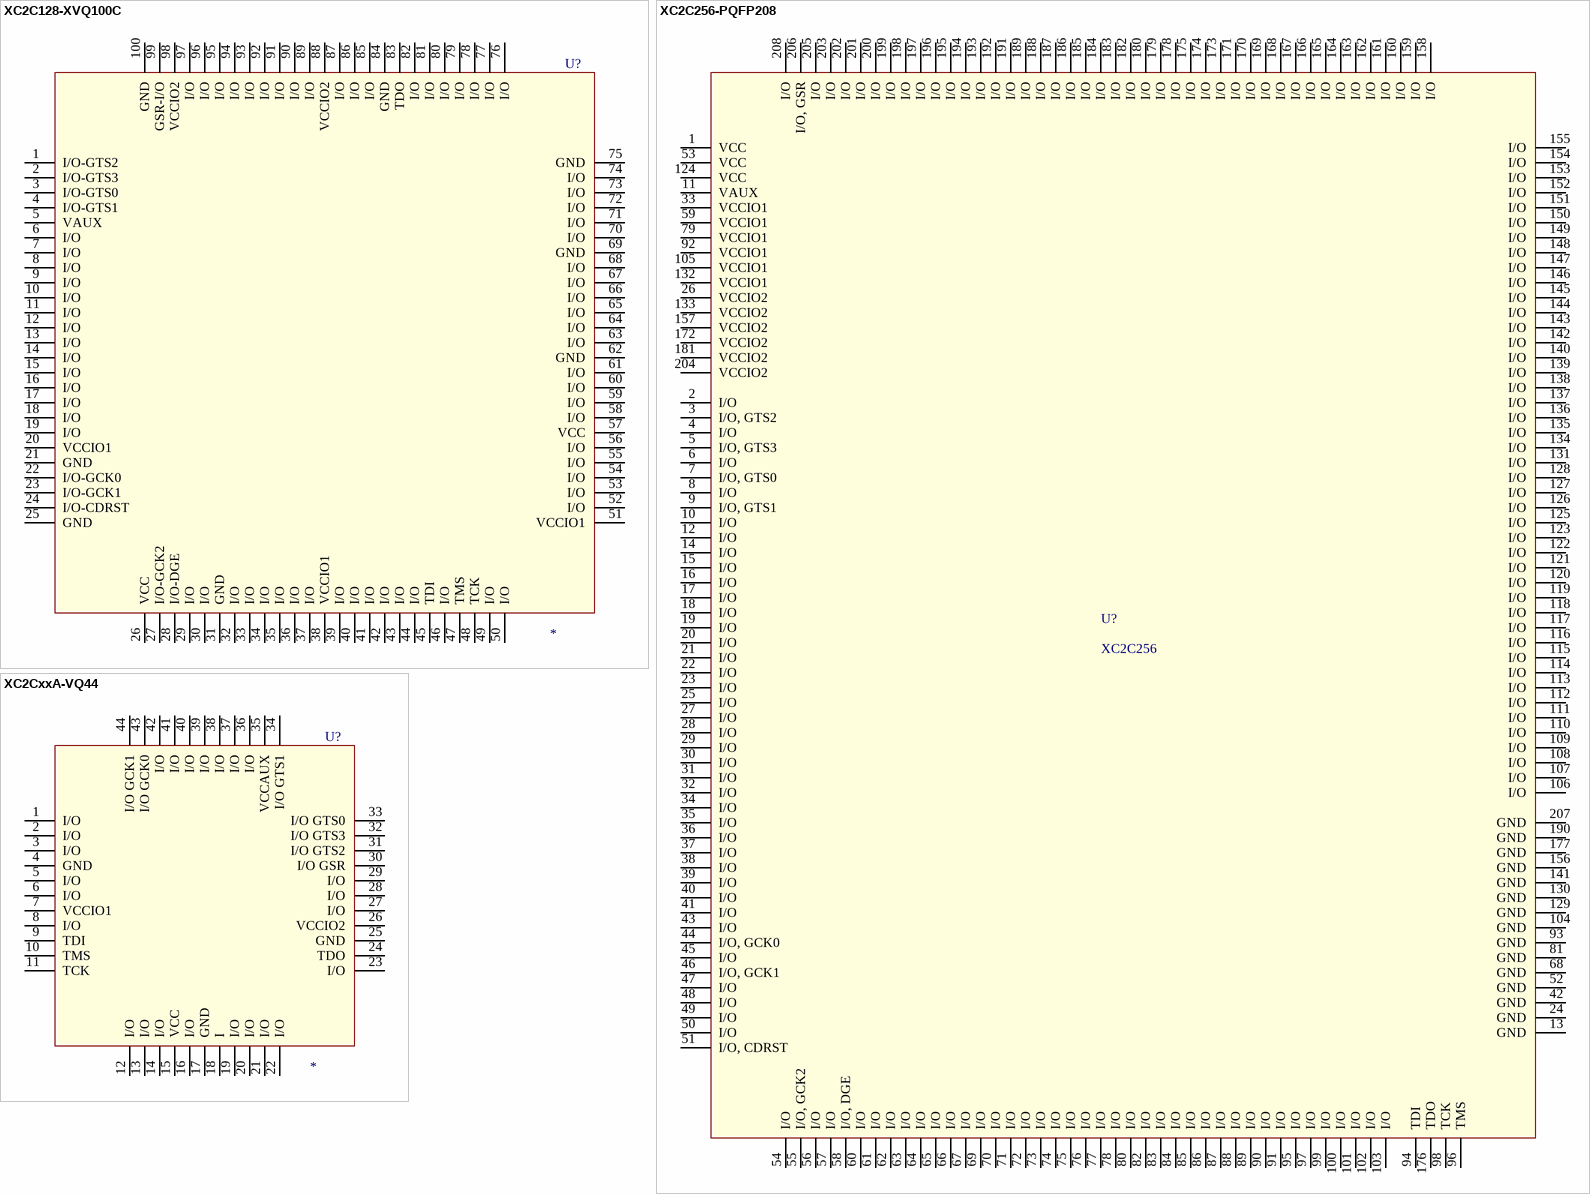
[diagram p21: symbols XC2C128-XVQ100C to XC2CxxA-VQ44]

## XC2C128-XVQ100C
designator U?
XC2C128 CoolRunner-II CPLD; value: *
footprint VQ100 P0.5 C14x14 H1.2 (Thin QFP, 100-Leads, Body 14x14mm, Pitch 0.5mm, IPC Medium Density)
pins: 1 I/O-GTS2, 2 I/O-GTS3, 3 I/O-GTS0, 4 I/O-GTS1, 5 VAUX, 6 I/O, 7 I/O, 8 I/O, 9 I/O, 10 I/O, 11 I/O, 12 I/O, 13 I/O, 14 I/O, 15 I/O, 16 I/O, 17 I/O, 18 I/O, 19 I/O, 20 VCCIO1, 21 GND, 22 I/O-GCK0, 23 I/O-GCK1, 24 I/O-CDRST, 25 GND, 26 VCC, 27 I/O-GCK2, 28 I/O-DGE, 29 I/O, 30 I/O, 31 GND, 32 I/O, 33 I/O, 34 I/O, 35 I/O, 36 I/O, 37 I/O, 38 VCCIO1, 39 I/O, 40 I/O, 41 I/O, 42 I/O, 43 I/O, 44 I/O, 45 TDI, 46 I/O, 47 TMS, 48 TCK, 49 I/O, 50 I/O, 51 VCCIO1, 52 I/O, 53 I/O, 54 I/O, 55 I/O, 56 I/O, 57 VCC, 58 I/O, 59 I/O, 60 I/O, 61 I/O, 62 GND, 63 I/O, 64 I/O, 65 I/O, 66 I/O, 67 I/O, 68 I/O, 69 GND, 70 I/O, 71 I/O, 72 I/O, 73 I/O, 74 I/O, 75 GND, 76 I/O, 77 I/O, 78 I/O, 79 I/O, 80 I/O, 81 I/O, 82 I/O, 83 TDO, 84 GND, 85 I/O, 86 I/O, 87 I/O, 88 VCCIO2, 89 I/O, 90 I/O, 91 I/O, 92 I/O, 93 I/O, 94 I/O, 95 I/O, 96 I/O, 97 I/O, 98 VCCIO2, 99 GSR-I/O, 100 GND